# Altium integrated library Atmel AT40K.IntLib: 139 symbols (part 7 of 12)
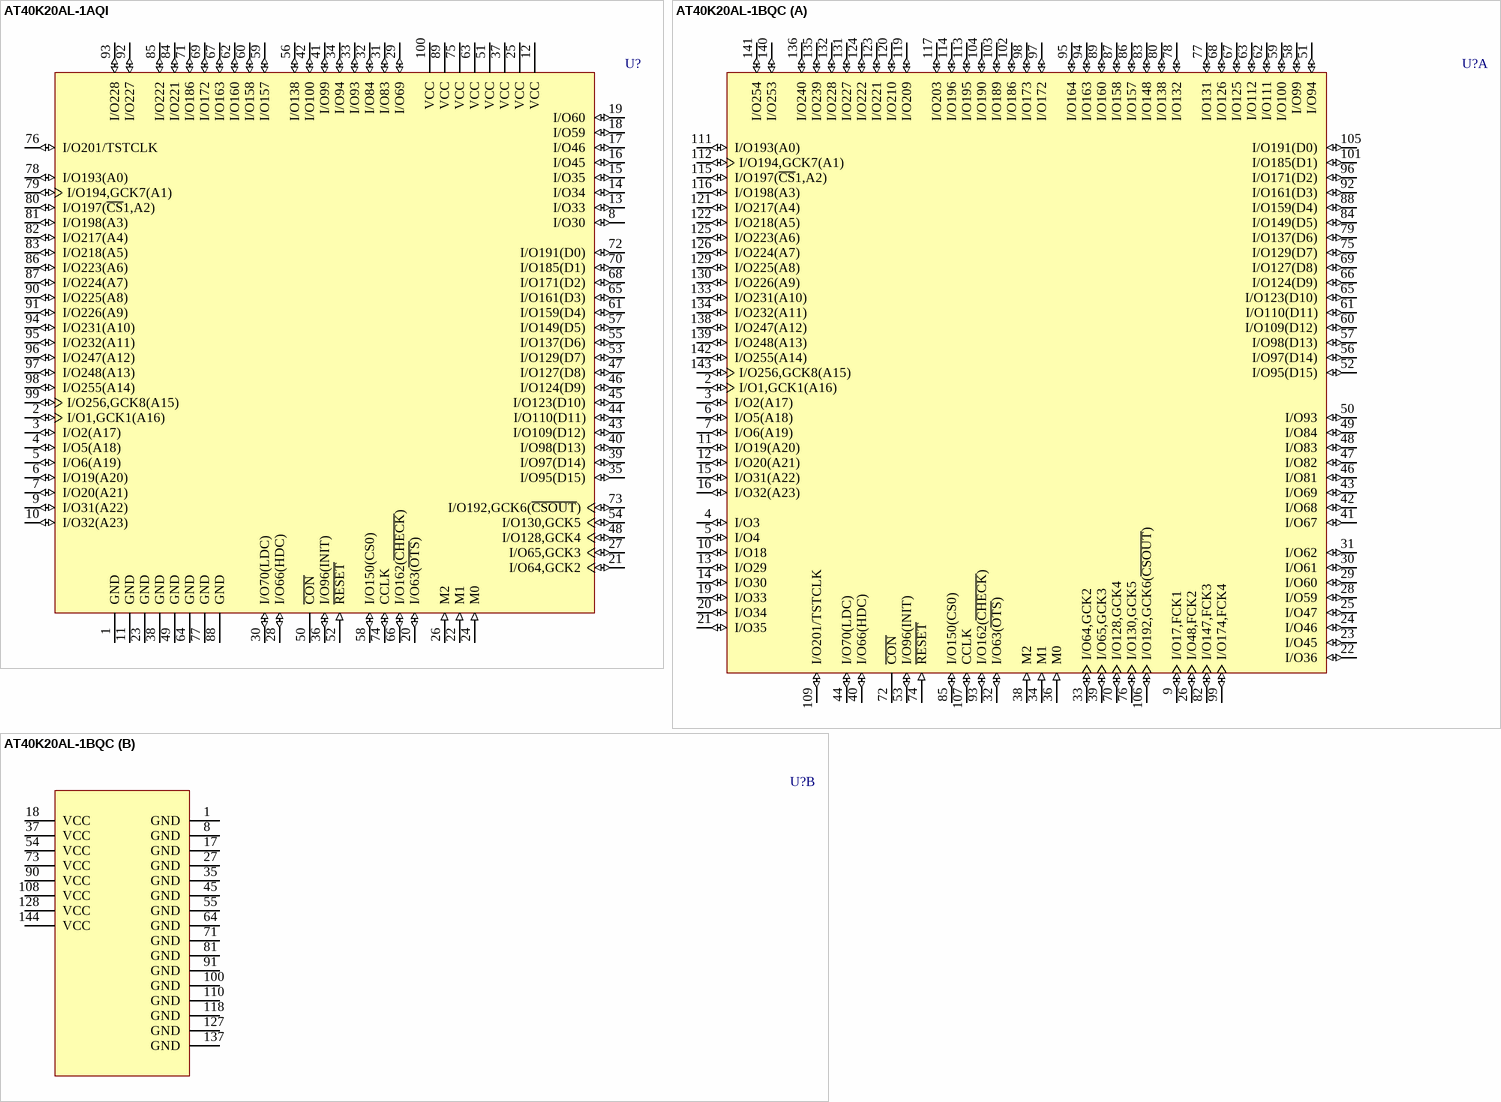
[diagram p113: symbols AT40K20AL-1AQI to AT40K20AL-1BQC]

## AT40K20AL-1BQC
designator U?
AT40K20AL 3.3V FPGA, 114 User I/Os, 144-Lead LQFP, Speed Grade 1, Commercial Grade; Published: 17-Dec-2003; LatestRevisionDate: 13-Apr-2006; LatestRevisionNote: IPC-7351 Footprint Added.; DatasheetVersion: Rev. 2818D-02/03; PackageVersion: rev.A, Nov-2001; PackageReference: 144L1; Publisher: Altium Limited; PackageDescription: 144-Pin Thin Quad Flat Pack 0.5 mm Pitch; Code_JEDEC: MS-026-BFB; ComponentLink1Description: Manufacturer Link; ComponentLink1URL: http://www.atmel.com/products/FPGA/; ComponentLink2Description: Datasheet; ComponentLink2URL: http://www.atmel.com/dyn/resources/prod_documents/DOC0896.PDF
footprint 144L1_N (Thin QFP, 144-Leads, Body 20x20mm, Pitch 0.5mm, IPC Medium Density)
footprint 144L1_L (Thin QFP, 144-Leads, Body 20x20mm, Pitch 0.5mm, IPC High Density)
footprint 144L1_M (Thin QFP, 144-Leads, Body 20x20mm, Pitch 0.5mm, IPC Low Density)
3D model AT40K20AL-144L1 (144-Pin Thin Quad Flat Pack 0.5 mm Pitch)
part A pins: 2 I/O1,GCK1(A16) (io), 3 I/O2(A17) (io), 4 I/O3 (io), 5 I/O4 (io), 6 I/O5(A18) (io), 7 I/O6(A19) (io), 9 I/O17,FCK1 (io), 10 I/O18 (io), 11 I/O19(A20) (io), 12 I/O20(A21) (io), 13 I/O29 (io), 14 I/O30 (io), 15 I/O31(A22) (io), 16 I/O32(A23) (io), 19 I/O33 (io), 20 I/O34 (io), 21 I/O35 (io), 22 I/O36 (io), 23 I/O45 (io), 24 I/O46 (io), 25 I/O47 (io), 26 I/O48,FCK2 (io), 28 I/O59 (io), 29 I/O60 (io), 30 I/O61 (io), 31 I/O62 (io), 32 I/O63(~{OTS}) (io), 33 I/O64,GCK2 (io), 34 M1 (in), 36 M0 (in), 38 M2 (in), 39 I/O65,GCK3 (io), 40 I/O66(HDC) (io), 41 I/O67 (io), 42 I/O68 (io), 43 I/O69 (io), 44 I/O70(LDC) (io), 46 I/O81 (io), 47 I/O82 (io), 48 I/O83 (io), 49 I/O84 (io), 50 I/O93 (io), 51 I/O94 (io), 52 I/O95(D15) (io), 53 I/O96(INIT) (io), 56 I/O97(D14) (io), 57 I/O98(D13) (io), 58 I/O99 (io), 59 I/O100 (io), 60 I/O109(D12) (io), 61 I/O110(D11) (io), 62 I/O111 (io), 63 I/O112 (io), 65 I/O123(D10) (io), 66 I/O124(D9) (io), 67 I/O125 (io), 68 I/O126 (io), 69 I/O127(D8) (io), 70 I/O128,GCK4 (io), 72 ~{CON} (oc), 74 ~{RESET} (in), 75 I/O129(D7) (io), 76 I/O130,GCK5 (io), 77 I/O131 (io), 78 I/O132 (io), 79 I/O137(D6) (io), 80 I/O138 (io), 82 I/O147,FCK3 (io), 83 I/O148 (io), 84 I/O149(D5) (io), 85 I/O150(CS0) (io), 86 I/O157 (io), 87 I/O158 (io), 88 I/O159(D4) (io), 89 I/O160 (io), 92 I/O161(D3) (io), 93 I/O162(~{CHECK}) (io), 94 I/O163 (io), 95 I/O164 (io), 96 I/O171(D2) (io), 97 I/O172 (io), 98 I/O173 (io), 99 I/O174,FCK4 (io), 101 I/O185(D1) (io), 102 I/O186 (io), 103 I/O189 (io), 104 I/O190 (io), 105 I/O191(D0) (io), 106 I/O192,GCK6(~{CSOUT}) (io), 107 CCLK (io), 109 I/O201/TSTCLK (io), 111 I/O193(A0) (io), 112 I/O194,GCK7(A1) (io), 113 I/O195 (io), 114 I/O196 (io), 115 I/O197(~{CS}1,A2) (io), 116 I/O198(A3) (io), 117 I/O203 (io), 119 I/O209 (io), 120 I/O210 (io), 121 I/O217(A4) (io), 122 I/O218(A5) (io), 123 I/O221 (io), 124 I/O222 (io), 125 I/O223(A6) (io), 126 I/O224(A7) (io), 129 I/O225(A8) (io), 130 I/O226(A9) (io), 131 I/O227 (io), 132 I/O228 (io), 133 I/O231(A10) (io), 134 I/O232(A11) (io), 135 I/O239 (io), 136 I/O240 (io), 138 I/O247(A12) (io), 139 I/O248(A13) (io), 140 I/O253 (io), 141 I/O254 (io), 142 I/O255(A14) (io), 143 I/O256,GCK8(A15) (io)
part B pins: 1 GND (power), 8 GND (power), 17 GND (power), 18 VCC (power), 27 GND (power), 35 GND (power), 37 VCC (power), 45 GND (power), 54 VCC (power), 55 GND (power), 64 GND (power), 71 GND (power), 73 VCC (power), 81 GND (power), 90 VCC (power), 91 GND (power), 100 GND (power), 108 VCC (power), 110 GND (power), 118 GND (power), 127 GND (power), 128 VCC (power), 137 GND (power), 144 VCC (power)

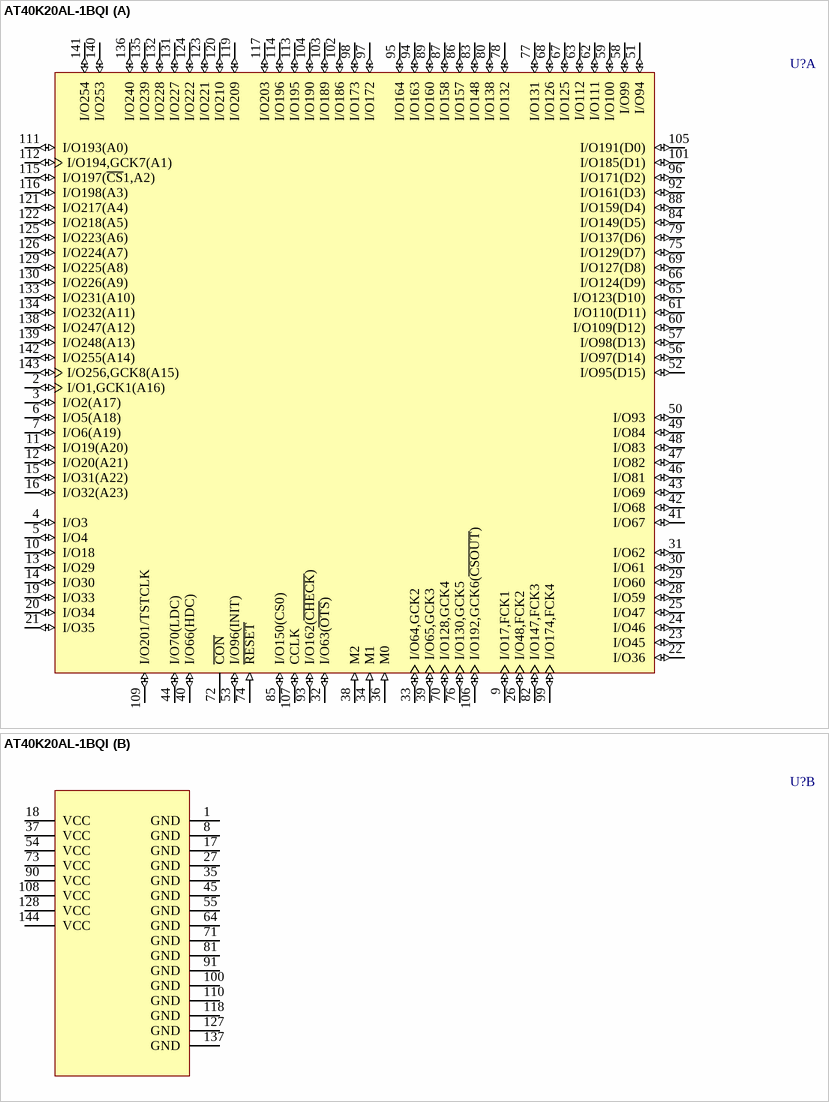
[diagram p51: symbol AT40K20AL-1BQI]

## AT40K20AL-1BQI
designator U?
AT40K20AL 3.3V FPGA, 114 User I/Os, 144-Lead LQFP, Speed Grade 1, Industrial Grade; Published: 17-Dec-2003; LatestRevisionDate: 13-Apr-2006; LatestRevisionNote: IPC-7351 Footprint Added.; DatasheetVersion: Rev. 2818D-02/03; PackageVersion: rev.A, Nov-2001; PackageReference: 144L1; Publisher: Altium Limited; PackageDescription: 144-Pin Thin Quad Flat Pack 0.5 mm Pitch; Code_JEDEC: MS-026-BFB; ComponentLink1Description: Manufacturer Link; ComponentLink1URL: http://www.atmel.com/products/FPGA/; ComponentLink2Description: Datasheet; ComponentLink2URL: http://www.atmel.com/dyn/resources/prod_documents/DOC0896.PDF
footprint 144L1_N (Thin QFP, 144-Leads, Body 20x20mm, Pitch 0.5mm, IPC Medium Density)
footprint 144L1_L (Thin QFP, 144-Leads, Body 20x20mm, Pitch 0.5mm, IPC High Density)
footprint 144L1_M (Thin QFP, 144-Leads, Body 20x20mm, Pitch 0.5mm, IPC Low Density)
3D model AT40K20AL-144L1 (144-Pin Thin Quad Flat Pack 0.5 mm Pitch)
part A pins: 2 I/O1,GCK1(A16) (io), 3 I/O2(A17) (io), 4 I/O3 (io), 5 I/O4 (io), 6 I/O5(A18) (io), 7 I/O6(A19) (io), 9 I/O17,FCK1 (io), 10 I/O18 (io), 11 I/O19(A20) (io), 12 I/O20(A21) (io), 13 I/O29 (io), 14 I/O30 (io), 15 I/O31(A22) (io), 16 I/O32(A23) (io), 19 I/O33 (io), 20 I/O34 (io), 21 I/O35 (io), 22 I/O36 (io), 23 I/O45 (io), 24 I/O46 (io), 25 I/O47 (io), 26 I/O48,FCK2 (io), 28 I/O59 (io), 29 I/O60 (io), 30 I/O61 (io), 31 I/O62 (io), 32 I/O63(~{OTS}) (io), 33 I/O64,GCK2 (io), 34 M1 (in), 36 M0 (in), 38 M2 (in), 39 I/O65,GCK3 (io), 40 I/O66(HDC) (io), 41 I/O67 (io), 42 I/O68 (io), 43 I/O69 (io), 44 I/O70(LDC) (io), 46 I/O81 (io), 47 I/O82 (io), 48 I/O83 (io), 49 I/O84 (io), 50 I/O93 (io), 51 I/O94 (io), 52 I/O95(D15) (io), 53 I/O96(INIT) (io), 56 I/O97(D14) (io), 57 I/O98(D13) (io), 58 I/O99 (io), 59 I/O100 (io), 60 I/O109(D12) (io), 61 I/O110(D11) (io), 62 I/O111 (io), 63 I/O112 (io), 65 I/O123(D10) (io), 66 I/O124(D9) (io), 67 I/O125 (io), 68 I/O126 (io), 69 I/O127(D8) (io), 70 I/O128,GCK4 (io), 72 ~{CON} (oc), 74 ~{RESET} (in), 75 I/O129(D7) (io), 76 I/O130,GCK5 (io), 77 I/O131 (io), 78 I/O132 (io), 79 I/O137(D6) (io), 80 I/O138 (io), 82 I/O147,FCK3 (io), 83 I/O148 (io), 84 I/O149(D5) (io), 85 I/O150(CS0) (io), 86 I/O157 (io), 87 I/O158 (io), 88 I/O159(D4) (io), 89 I/O160 (io), 92 I/O161(D3) (io), 93 I/O162(~{CHECK}) (io), 94 I/O163 (io), 95 I/O164 (io), 96 I/O171(D2) (io), 97 I/O172 (io), 98 I/O173 (io), 99 I/O174,FCK4 (io), 101 I/O185(D1) (io), 102 I/O186 (io), 103 I/O189 (io), 104 I/O190 (io), 105 I/O191(D0) (io), 106 I/O192,GCK6(~{CSOUT}) (io), 107 CCLK (io), 109 I/O201/TSTCLK (io), 111 I/O193(A0) (io), 112 I/O194,GCK7(A1) (io), 113 I/O195 (io), 114 I/O196 (io), 115 I/O197(~{CS}1,A2) (io), 116 I/O198(A3) (io), 117 I/O203 (io), 119 I/O209 (io), 120 I/O210 (io), 121 I/O217(A4) (io), 122 I/O218(A5) (io), 123 I/O221 (io), 124 I/O222 (io), 125 I/O223(A6) (io), 126 I/O224(A7) (io), 129 I/O225(A8) (io), 130 I/O226(A9) (io), 131 I/O227 (io), 132 I/O228 (io), 133 I/O231(A10) (io), 134 I/O232(A11) (io), 135 I/O239 (io), 136 I/O240 (io), 138 I/O247(A12) (io), 139 I/O248(A13) (io), 140 I/O253 (io), 141 I/O254 (io), 142 I/O255(A14) (io), 143 I/O256,GCK8(A15) (io)
part B pins: 1 GND (power), 8 GND (power), 17 GND (power), 18 VCC (power), 27 GND (power), 35 GND (power), 37 VCC (power), 45 GND (power), 54 VCC (power), 55 GND (power), 64 GND (power), 71 GND (power), 73 VCC (power), 81 GND (power), 90 VCC (power), 91 GND (power), 100 GND (power), 108 VCC (power), 110 GND (power), 118 GND (power), 127 GND (power), 128 VCC (power), 137 GND (power), 144 VCC (power)

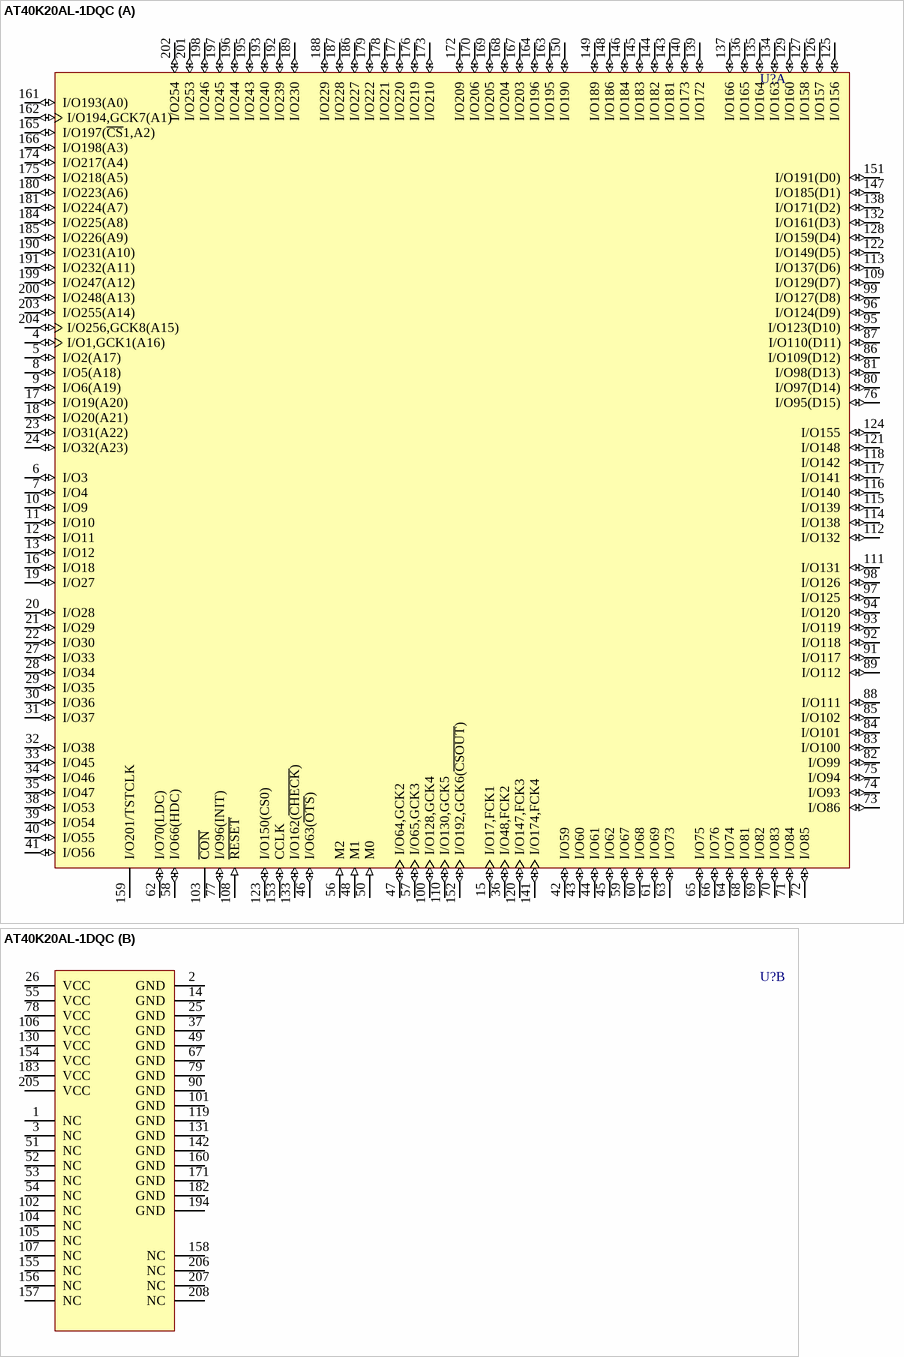
[diagram p52: symbol AT40K20AL-1DQC]

## AT40K20AL-1DQC
designator U?
AT40K20AL 3.3V FPGA, 161 User I/Os, 208-Lead PQFP, Speed Grade 1, Commercial Grade; Published: 17-Dec-2003; LatestRevisionDate: 13-Apr-2006; LatestRevisionNote: IPC-7351 Footprint Added.; DatasheetVersion: Rev. 2818D-02/03; PackageVersion: rev.A, Nov-2001; PackageReference: 208Q1; Publisher: Altium Limited; PackageDescription: 208-Pin Shrink Quad Flat Pack 0.5 mm Pitch; ComponentLink1Description: Manufacturer Link; ComponentLink1URL: http://www.atmel.com/products/FPGA/; ComponentLink2Description: Datasheet; ComponentLink2URL: http://www.atmel.com/dyn/resources/prod_documents/DOC0896.PDF
footprint 208Q1_N (Shrink QFP, 208-Leads, Body 28x28mm, Pitch 0.5mm, IPC Medium Density)
footprint 208Q1_L (Shrink QFP, 208-Leads, Body 28x28mm, Pitch 0.5mm, IPC High Density)
footprint 208Q1_M (Shrink QFP, 208-Leads, Body 28x28mm, Pitch 0.5mm, IPC Low Density)
3D model AT40K20AL-208Q1 (208-Pin Shrink Quad Flat Pack 0.5 mm Pitch)
part A pins: 4 I/O1,GCK1(A16) (io), 5 I/O2(A17) (io), 6 I/O3 (io), 7 I/O4 (io), 8 I/O5(A18) (io), 9 I/O6(A19) (io), 10 I/O9 (io), 11 I/O10 (io), 12 I/O11 (io), 13 I/O12 (io), 15 I/O17,FCK1 (io), 16 I/O18 (io), 17 I/O19(A20) (io), 18 I/O20(A21) (io), 19 I/O27 (io), 20 I/O28 (io), 21 I/O29 (io), 22 I/O30 (io), 23 I/O31(A22) (io), 24 I/O32(A23) (io), 27 I/O33 (io), 28 I/O34 (io), 29 I/O35 (io), 30 I/O36 (io), 31 I/O37 (io), 32 I/O38 (io), 33 I/O45 (io), 34 I/O46 (io), 35 I/O47 (io), 36 I/O48,FCK2 (io), 38 I/O53 (io), 39 I/O54 (io), 40 I/O55 (io), 41 I/O56 (io), 42 I/O59 (io), 43 I/O60 (io), 44 I/O61 (io), 45 I/O62 (io), 46 I/O63(~{OTS}) (io), 47 I/O64,GCK2 (io), 48 M1 (in), 50 M0 (in), 56 M2 (in), 57 I/O65,GCK3 (io), 58 I/O66(HDC) (io), 59 I/O67 (io), 60 I/O68 (io), 61 I/O69 (io), 62 I/O70(LDC) (io), 63 I/O73 (io), 64 I/O74 (io), 65 I/O75 (io), 66 I/O76 (io), 68 I/O81 (io), 69 I/O82 (io), 70 I/O83 (io), 71 I/O84 (io), 72 I/O85 (io), 73 I/O86 (io), 74 I/O93 (io), 75 I/O94 (io), 76 I/O95(D15) (io), 77 I/O96(INIT) (io), 80 I/O97(D14) (io), 81 I/O98(D13) (io), 82 I/O99 (io), 83 I/O100 (io), 84 I/O101 (io), 85 I/O102 (io), 86 I/O109(D12) (io), 87 I/O110(D11) (io), 88 I/O111 (io), 89 I/O112 (io), 91 I/O117 (io), 92 I/O118 (io), 93 I/O119 (io), 94 I/O120 (io), 95 I/O123(D10) (io), 96 I/O124(D9) (io), 97 I/O125 (io), 98 I/O126 (io), 99 I/O127(D8) (io), 100 I/O128,GCK4 (io), 103 ~{CON} (oc), 108 ~{RESET} (in), 109 I/O129(D7) (io), 110 I/O130,GCK5 (io), 111 I/O131 (io), 112 I/O132 (io), 113 I/O137(D6) (io), 114 I/O138 (io), 115 I/O139 (io), 116 I/O140 (io), 117 I/O141 (io), 118 I/O142 (io), 120 I/O147,FCK3 (io), 121 I/O148 (io), 122 I/O149(D5) (io), 123 I/O150(CS0) (io), 124 I/O155 (io), 125 I/O156 (io), 126 I/O157 (io), 127 I/O158 (io), 128 I/O159(D4) (io), 129 I/O160 (io), 132 I/O161(D3) (io), 133 I/O162(~{CHECK}) (io), 134 I/O163 (io), 135 I/O164 (io), 136 I/O165 (io), 137 I/O166 (io), 138 I/O171(D2) (io), 139 I/O172 (io), 140 I/O173 (io), 141 I/O174,FCK4 (io), 143 I/O181 (io), 144 I/O182 (io), 145 I/O183 (io), 146 I/O184 (io), 147 I/O185(D1) (io), 148 I/O186 (io), 149 I/O189 (io), 150 I/O190 (io), 151 I/O191(D0) (io), 152 I/O192,GCK6(~{CSOUT}) (io), 153 CCLK (io), 159 I/O201/TSTCLK, 161 I/O193(A0) (io), 162 I/O194,GCK7(A1) (io), 163 I/O195 (io), 164 I/O196 (io), 165 I/O197(~{CS}1,A2) (io), 166 I/O198(A3) (io), 167 I/O203 (io), 168 I/O204 (io), 169 I/O205 (io), 170 I/O206 (io), 172 I/O209 (io), 173 I/O210 (io), 174 I/O217(A4) (io), 175 I/O218(A5) (io), 176 I/O219 (io), 177 I/O220 (io), 178 I/O221 (io), 179 I/O222 (io), 180 I/O223(A6) (io), 181 I/O224(A7) (io), 184 I/O225(A8) (io), 185 I/O226(A9) (io), 186 I/O227 (io), 187 I/O228 (io), 188 I/O229 (io), 189 I/O230 (io), 190 I/O231(A10) (io), 191 I/O232(A11) (io), 192 I/O239 (io), 193 I/O240 (io), 195 I/O243 (io), 196 I/O244 (io), 197 I/O245 (io), 198 I/O246 (io), 199 I/O247(A12) (io), 200 I/O248(A13) (io), 201 I/O253 (io), 202 I/O254 (io), 203 I/O255(A14) (io), 204 I/O256,GCK8(A15) (io)
part B pins: 1 NC, 2 GND (power), 3 NC, 14 GND (power), 25 GND (power), 26 VCC (power), 37 GND (power), 49 GND (power), 51 NC, 52 NC, 53 NC, 54 NC, 55 VCC (power), 67 GND (power), 78 VCC (power), 79 GND (power), 90 GND (power), 101 GND (power), 102 NC, 104 NC, 105 NC, 106 VCC (power), 107 NC, 119 GND (power), 130 VCC (power), 131 GND (power), 142 GND (power), 154 VCC (power), 155 NC, 156 NC, 157 NC, 158 NC, 160 GND (power), 171 GND (power), 182 GND (power), 183 VCC (power), 194 GND (power), 205 VCC (power), 206 NC, 207 NC, 208 NC

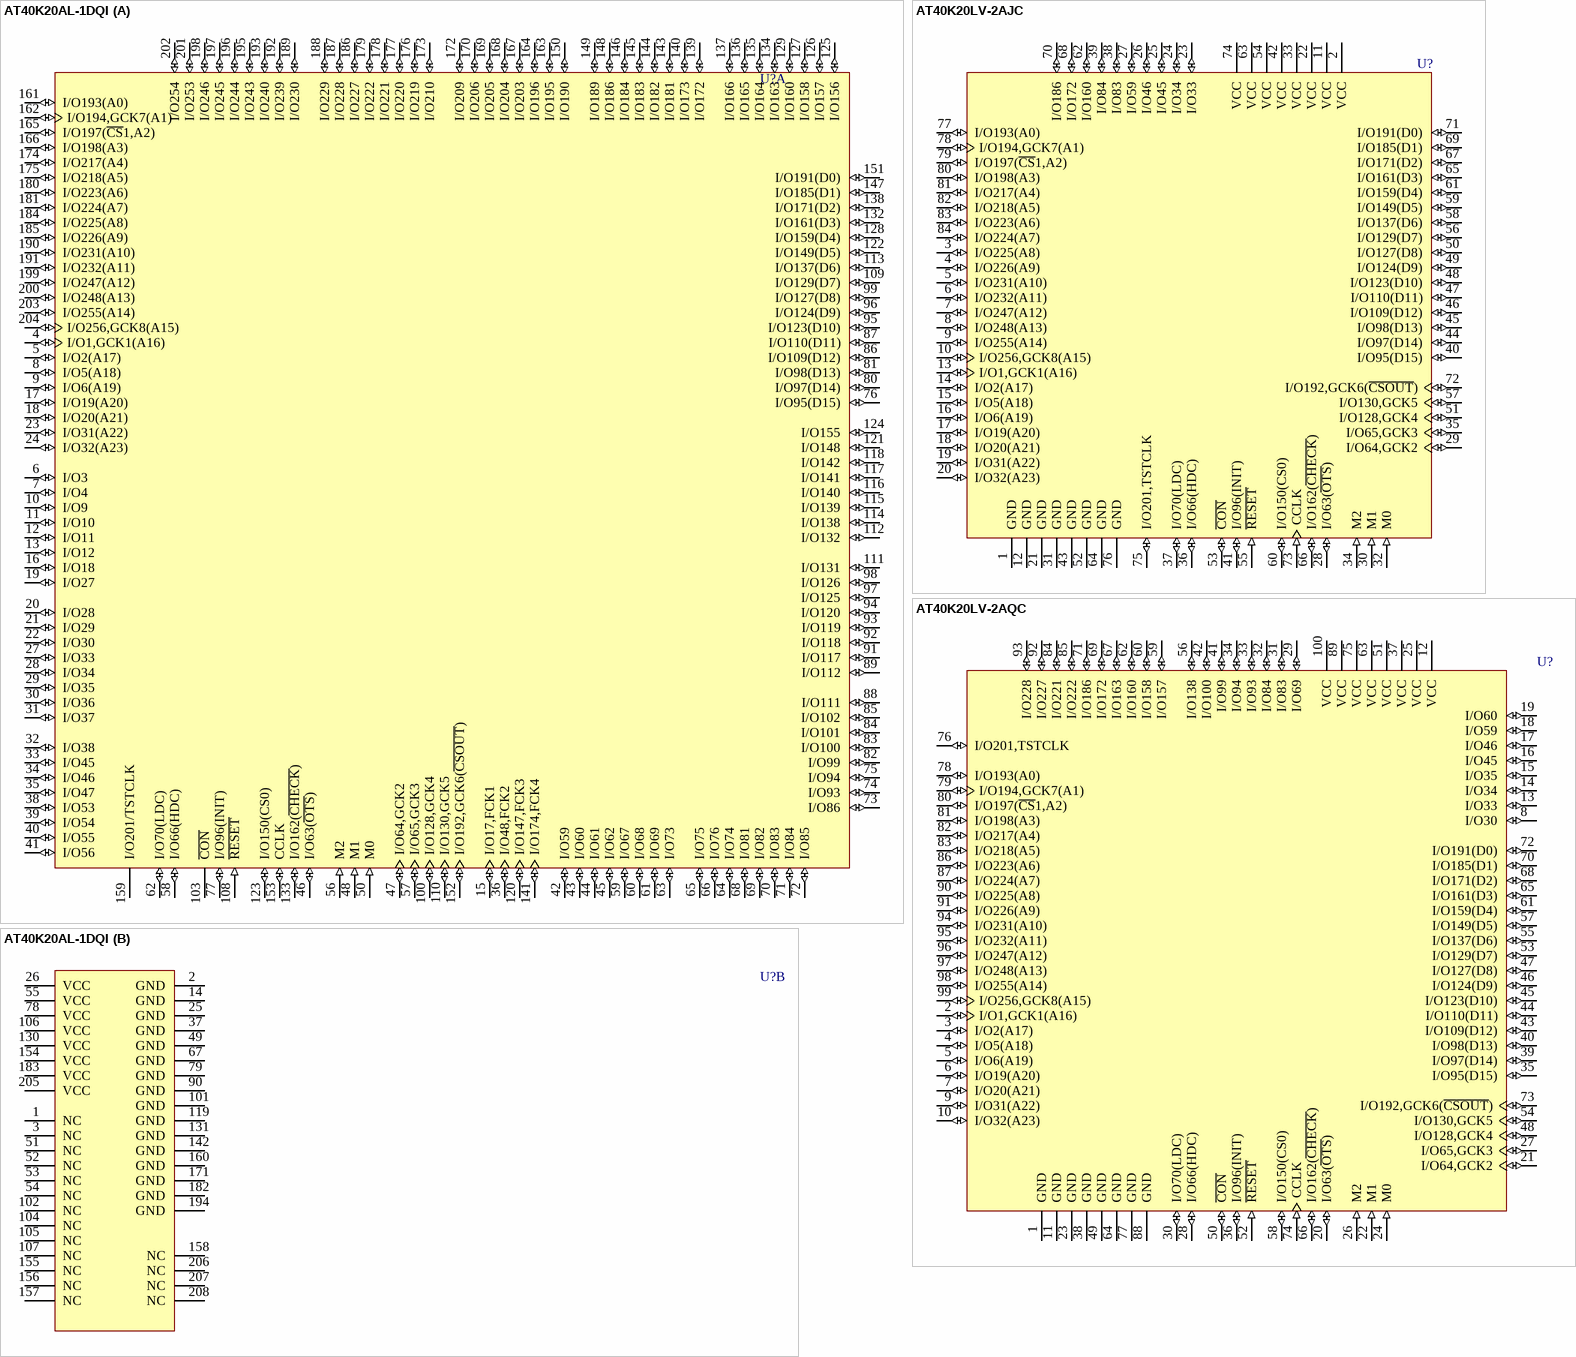
[diagram p53: symbols AT40K20AL-1DQI to AT40K20LV-2AQC]

## AT40K20AL-1DQI
designator U?
AT40K20AL 3.3V FPGA, 161 User I/Os, 208-Lead PQFP, Speed Grade 1, Industrial Grade; Published: 17-Dec-2003; LatestRevisionDate: 13-Apr-2006; LatestRevisionNote: IPC-7351 Footprint Added.; DatasheetVersion: Rev. 2818D-02/03; PackageVersion: rev.A, Nov-2001; PackageReference: 208Q1; Publisher: Altium Limited; PackageDescription: 208-Pin Shrink Quad Flat Pack 0.5 mm Pitch; ComponentLink1Description: Manufacturer Link; ComponentLink1URL: http://www.atmel.com/products/FPGA/; ComponentLink2Description: Datasheet; ComponentLink2URL: http://www.atmel.com/dyn/resources/prod_documents/DOC0896.PDF
footprint 208Q1_N (Shrink QFP, 208-Leads, Body 28x28mm, Pitch 0.5mm, IPC Medium Density)
footprint 208Q1_L (Shrink QFP, 208-Leads, Body 28x28mm, Pitch 0.5mm, IPC High Density)
footprint 208Q1_M (Shrink QFP, 208-Leads, Body 28x28mm, Pitch 0.5mm, IPC Low Density)
3D model AT40K20AL-208Q1 (208-Pin Shrink Quad Flat Pack 0.5 mm Pitch)
part A pins: 4 I/O1,GCK1(A16) (io), 5 I/O2(A17) (io), 6 I/O3 (io), 7 I/O4 (io), 8 I/O5(A18) (io), 9 I/O6(A19) (io), 10 I/O9 (io), 11 I/O10 (io), 12 I/O11 (io), 13 I/O12 (io), 15 I/O17,FCK1 (io), 16 I/O18 (io), 17 I/O19(A20) (io), 18 I/O20(A21) (io), 19 I/O27 (io), 20 I/O28 (io), 21 I/O29 (io), 22 I/O30 (io), 23 I/O31(A22) (io), 24 I/O32(A23) (io), 27 I/O33 (io), 28 I/O34 (io), 29 I/O35 (io), 30 I/O36 (io), 31 I/O37 (io), 32 I/O38 (io), 33 I/O45 (io), 34 I/O46 (io), 35 I/O47 (io), 36 I/O48,FCK2 (io), 38 I/O53 (io), 39 I/O54 (io), 40 I/O55 (io), 41 I/O56 (io), 42 I/O59 (io), 43 I/O60 (io), 44 I/O61 (io), 45 I/O62 (io), 46 I/O63(~{OTS}) (io), 47 I/O64,GCK2 (io), 48 M1 (in), 50 M0 (in), 56 M2 (in), 57 I/O65,GCK3 (io), 58 I/O66(HDC) (io), 59 I/O67 (io), 60 I/O68 (io), 61 I/O69 (io), 62 I/O70(LDC) (io), 63 I/O73 (io), 64 I/O74 (io), 65 I/O75 (io), 66 I/O76 (io), 68 I/O81 (io), 69 I/O82 (io), 70 I/O83 (io), 71 I/O84 (io), 72 I/O85 (io), 73 I/O86 (io), 74 I/O93 (io), 75 I/O94 (io), 76 I/O95(D15) (io), 77 I/O96(INIT) (io), 80 I/O97(D14) (io), 81 I/O98(D13) (io), 82 I/O99 (io), 83 I/O100 (io), 84 I/O101 (io), 85 I/O102 (io), 86 I/O109(D12) (io), 87 I/O110(D11) (io), 88 I/O111 (io), 89 I/O112 (io), 91 I/O117 (io), 92 I/O118 (io), 93 I/O119 (io), 94 I/O120 (io), 95 I/O123(D10) (io), 96 I/O124(D9) (io), 97 I/O125 (io), 98 I/O126 (io), 99 I/O127(D8) (io), 100 I/O128,GCK4 (io), 103 ~{CON} (oc), 108 ~{RESET} (in), 109 I/O129(D7) (io), 110 I/O130,GCK5 (io), 111 I/O131 (io), 112 I/O132 (io), 113 I/O137(D6) (io), 114 I/O138 (io), 115 I/O139 (io), 116 I/O140 (io), 117 I/O141 (io), 118 I/O142 (io), 120 I/O147,FCK3 (io), 121 I/O148 (io), 122 I/O149(D5) (io), 123 I/O150(CS0) (io), 124 I/O155 (io), 125 I/O156 (io), 126 I/O157 (io), 127 I/O158 (io), 128 I/O159(D4) (io), 129 I/O160 (io), 132 I/O161(D3) (io), 133 I/O162(~{CHECK}) (io), 134 I/O163 (io), 135 I/O164 (io), 136 I/O165 (io), 137 I/O166 (io), 138 I/O171(D2) (io), 139 I/O172 (io), 140 I/O173 (io), 141 I/O174,FCK4 (io), 143 I/O181 (io), 144 I/O182 (io), 145 I/O183 (io), 146 I/O184 (io), 147 I/O185(D1) (io), 148 I/O186 (io), 149 I/O189 (io), 150 I/O190 (io), 151 I/O191(D0) (io), 152 I/O192,GCK6(~{CSOUT}) (io), 153 CCLK (io), 159 I/O201/TSTCLK, 161 I/O193(A0) (io), 162 I/O194,GCK7(A1) (io), 163 I/O195 (io), 164 I/O196 (io), 165 I/O197(~{CS}1,A2) (io), 166 I/O198(A3) (io), 167 I/O203 (io), 168 I/O204 (io), 169 I/O205 (io), 170 I/O206 (io), 172 I/O209 (io), 173 I/O210 (io), 174 I/O217(A4) (io), 175 I/O218(A5) (io), 176 I/O219 (io), 177 I/O220 (io), 178 I/O221 (io), 179 I/O222 (io), 180 I/O223(A6) (io), 181 I/O224(A7) (io), 184 I/O225(A8) (io), 185 I/O226(A9) (io), 186 I/O227 (io), 187 I/O228 (io), 188 I/O229 (io), 189 I/O230 (io), 190 I/O231(A10) (io), 191 I/O232(A11) (io), 192 I/O239 (io), 193 I/O240 (io), 195 I/O243 (io), 196 I/O244 (io), 197 I/O245 (io), 198 I/O246 (io), 199 I/O247(A12) (io), 200 I/O248(A13) (io), 201 I/O253 (io), 202 I/O254 (io), 203 I/O255(A14) (io), 204 I/O256,GCK8(A15) (io)
part B pins: 1 NC, 2 GND (power), 3 NC, 14 GND (power), 25 GND (power), 26 VCC (power), 37 GND (power), 49 GND (power), 51 NC, 52 NC, 53 NC, 54 NC, 55 VCC (power), 67 GND (power), 78 VCC (power), 79 GND (power), 90 GND (power), 101 GND (power), 102 NC, 104 NC, 105 NC, 106 VCC (power), 107 NC, 119 GND (power), 130 VCC (power), 131 GND (power), 142 GND (power), 154 VCC (power), 155 NC, 156 NC, 157 NC, 158 NC, 160 GND (power), 171 GND (power), 182 GND (power), 183 VCC (power), 194 GND (power), 205 VCC (power), 206 NC, 207 NC, 208 NC

## AT40K20LV-2AJC
designator U?
AT40K20LV 3.3V FPGA, 82 User I/Os, 84-Lead PLCC, Speed Grade 2, Commercial Grade; Published: 15-Apr-2002; LatestRevisionDate: 13-Apr-2006; LatestRevisionNote: IPC-7351 Footprint Added.; DatasheetVersion: Rev. 0896C-04/02; PackageVersion: rev.B, Oct-2001; PackageReference: 84J; Publisher: Altium Limited; PackageDescription: 84J, 84-lead, Plastic J-leaded Chip Carrier (PLCC); Code_JEDEC: MS-018-AF; Code_IPC: PLCC-84; ComponentLink1Description: Manufacturer Link; ComponentLink1URL: http://www.atmel.com/products/FPGA/; ComponentLink2Description: Datasheet; ComponentLink2URL: http://www.atmel.com/dyn/resources/prod_documents/DOC0896.PDF
footprint 84J_N (Leaded Chip Carrier, 84-Leads, Body 29.3x29.3mm, Pitch 1.27mm, IPC Medium Density)
footprint 84J_L (Leaded Chip Carrier, 84-Leads, Body 29.3x29.3mm, Pitch 1.27mm, IPC High Density)
footprint 84J_M (Leaded Chip Carrier, 84-Leads, Body 29.3x29.3mm, Pitch 1.27mm, IPC Low Density)
3D model AT40K20LV-84J (84J, 84-lead, Plastic J-leaded Chip Carrier (PLCC))
pins: 1 GND (power), 2 VCC (power), 3 I/O225(A8) (io), 4 I/O226(A9) (io), 5 I/O231(A10) (io), 6 I/O232(A11) (io), 7 I/O247(A12) (io), 8 I/O248(A13) (io), 9 I/O255(A14) (io), 10 I/O256,GCK8(A15) (io), 11 VCC (power), 12 GND (power), 13 I/O1,GCK1(A16) (io), 14 I/O2(A17) (io), 15 I/O5(A18) (io), 16 I/O6(A19) (io), 17 I/O19(A20) (io), 18 I/O20(A21) (io), 19 I/O31(A22) (io), 20 I/O32(A23) (io), 21 GND (power), 22 VCC (power), 23 I/O33 (io), 24 I/O34 (io), 25 I/O45 (io), 26 I/O46 (io), 27 I/O59 (io), 28 I/O63(~{OTS}) (io), 29 I/O64,GCK2 (io), 30 M1 (in), 31 GND (power), 32 M0 (in), 33 VCC (power), 34 M2 (in), 35 I/O65,GCK3 (io), 36 I/O66(HDC) (io), 37 I/O70(LDC) (io), 38 I/O83 (io), 39 I/O84 (io), 40 I/O95(D15) (io), 41 I/O96(INIT) (io), 42 VCC (power), 43 GND (power), 44 I/O97(D14) (io), 45 I/O98(D13) (io), 46 I/O109(D12) (io), 47 I/O110(D11) (io), 48 I/O123(D10) (io), 49 I/O124(D9) (io), 50 I/O127(D8) (io), 51 I/O128,GCK4 (io), 52 GND (power), 53 ~{CON} (io), 54 VCC (power), 55 ~{RESET} (in), 56 I/O129(D7) (io), 57 I/O130,GCK5 (io), 58 I/O137(D6) (io), 59 I/O149(D5) (io), 60 I/O150(CS0) (io), 61 I/O159(D4) (io), 62 I/O160 (io), 63 VCC (power), 64 GND (power), 65 I/O161(D3) (io), 66 I/O162(~{CHECK}) (io), 67 I/O171(D2) (io), 68 I/O172 (io), 69 I/O185(D1) (io), 70 I/O186 (io), 71 I/O191(D0) (io), 72 I/O192,GCK6(~{CSOUT}) (io), 73 CCLK (in), 74 VCC (power), 75 I/O201,TSTCLK (io), 76 GND (power), 77 I/O193(A0) (io), 78 I/O194,GCK7(A1) (io), 79 I/O197(~{CS}1,A2) (io), 80 I/O198(A3) (io), 81 I/O217(A4) (io), 82 I/O218(A5) (io), 83 I/O223(A6) (io), 84 I/O224(A7) (io)

## AT40K20LV-2AQC
designator U?
AT40K20LV 3.3V FPGA, 77 User I/Os, 100-Lead PQFP, Speed Grade 2, Commercial Grade; Published: 15-Apr-2002; LatestRevisionDate: 13-Apr-2006; LatestRevisionNote: IPC-7351 Footprint Added.; DatasheetVersion: Rev. 0896C-04/02; PackageVersion: rev.A, Nov-2001; PackageReference: 100T1; Publisher: Altium Limited; PackageDescription: 100-Pin Thin Quad Flat Pack 0.5 mm Pitch; Code_JEDEC: MS-026-AED; ComponentLink1Description: Manufacturer Link; ComponentLink1URL: http://www.atmel.com/products/FPGA/; ComponentLink2Description: Datasheet; ComponentLink2URL: http://www.atmel.com/dyn/resources/prod_documents/DOC0896.PDF
footprint 100T1_N (Thin QFP, 100-Leads, Body 14x14mm, Pitch 0.5mm, IPC Medium Density)
footprint 100T1_L (Thin QFP, 100-Leads, Body 14x14mm, Pitch 0.5mm, IPC High Density)
footprint 100T1_M (Thin QFP, 100-Leads, Body 14x14mm, Pitch 0.5mm, IPC Low Density)
3D model AT40K20LV-100T1 (100-Pin Thin Quad Flat Pack 0.5 mm Pitch)
pins: 1 GND (power), 2 I/O1,GCK1(A16) (io), 3 I/O2(A17) (io), 4 I/O5(A18) (io), 5 I/O6(A19) (io), 6 I/O19(A20) (io), 7 I/O20(A21) (io), 8 I/O30 (io), 9 I/O31(A22) (io), 10 I/O32(A23) (io), 11 GND (power), 12 VCC (power), 13 I/O33 (io), 14 I/O34 (io), 15 I/O35 (io), 16 I/O45 (io), 17 I/O46 (io), 18 I/O59 (io), 19 I/O60 (io), 20 I/O63(~{OTS}) (io), 21 I/O64,GCK2 (io), 22 M1 (in), 23 GND (power), 24 M0 (in), 25 VCC (power), 26 M2 (in), 27 I/O65,GCK3 (io), 28 I/O66(HDC) (io), 29 I/O69 (io), 30 I/O70(LDC) (io), 31 I/O83 (io), 32 I/O84 (io), 33 I/O93 (io), 34 I/O94 (io), 35 I/O95(D15) (io), 36 I/O96(INIT) (io), 37 VCC (power), 38 GND (power), 39 I/O97(D14) (io), 40 I/O98(D13) (io), 41 I/O99 (io), 42 I/O100 (io), 43 I/O109(D12) (io), 44 I/O110(D11) (io), 45 I/O123(D10) (io), 46 I/O124(D9) (io), 47 I/O127(D8) (io), 48 I/O128,GCK4 (io), 49 GND (power), 50 ~{CON} (io), 51 VCC (power), 52 ~{RESET} (in), 53 I/O129(D7) (io), 54 I/O130,GCK5 (io), 55 I/O137(D6) (io), 56 I/O138 (io), 57 I/O149(D5) (io), 58 I/O150(CS0) (io), 59 I/O157 (io), 60 I/O158 (io), 61 I/O159(D4) (io), 62 I/O160 (io), 63 VCC (power), 64 GND (power), 65 I/O161(D3) (io), 66 I/O162(~{CHECK}) (io), 67 I/O163 (io), 68 I/O171(D2) (io), 69 I/O172 (io), 70 I/O185(D1) (io), 71 I/O186 (io), 72 I/O191(D0) (io), 73 I/O192,GCK6(~{CSOUT}) (io), 74 CCLK (in), 75 VCC (power), 76 I/O201,TSTCLK (io), 77 GND (power), 78 I/O193(A0) (io), 79 I/O194,GCK7(A1) (io), 80 I/O197(~{CS}1,A2) (io), 81 I/O198(A3) (io), 82 I/O217(A4) (io), 83 I/O218(A5) (io), 84 I/O221 (io), 85 I/O222 (io), 86 I/O223(A6) (io), 87 I/O224(A7) (io), 88 GND (power), 89 VCC (power), 90 I/O225(A8) (io), 91 I/O226(A9) (io), 92 I/O227 (io), 93 I/O228 (io), 94 I/O231(A10) (io), 95 I/O232(A11) (io), 96 I/O247(A12) (io), 97 I/O248(A13) (io), 98 I/O255(A14) (io), 99 I/O256,GCK8(A15) (io), 100 VCC (power)

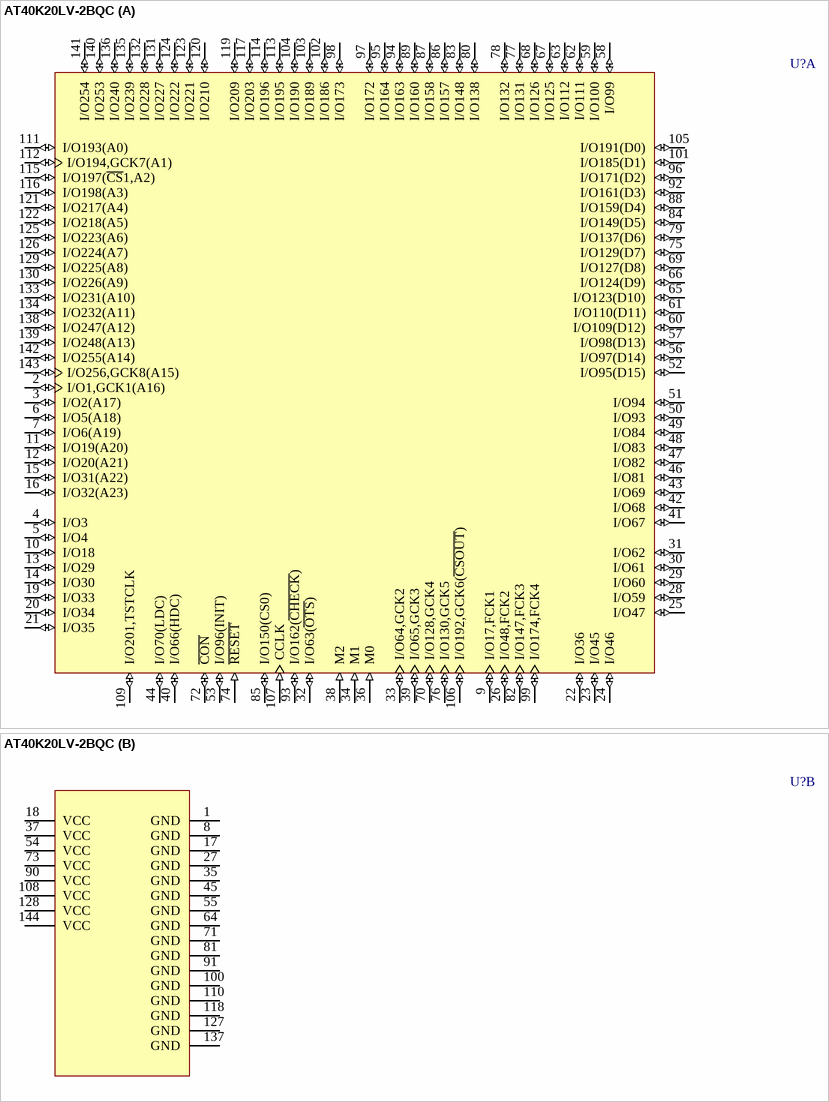
[diagram p54: symbol AT40K20LV-2BQC]

## AT40K20LV-2BQC
designator U?
AT40K20LV 3.3V FPGA, 114 User I/Os, 144-Lead LQFP, Speed Grade 2, Commercial Grade; Published: 15-Apr-2002; LatestRevisionDate: 13-Apr-2006; LatestRevisionNote: IPC-7351 Footprint Added.; DatasheetVersion: Rev. 0896C-04/02; PackageVersion: rev.A, Nov-2001; PackageReference: 144L1; Publisher: Altium Limited; PackageDescription: 144-Pin Thin Quad Flat Pack 0.5 mm Pitch; Code_JEDEC: MS-026-BFB; ComponentLink1Description: Manufacturer Link; ComponentLink1URL: http://www.atmel.com/products/FPGA/; ComponentLink2Description: Datasheet; ComponentLink2URL: http://www.atmel.com/dyn/resources/prod_documents/DOC0896.PDF
footprint 144L1_N (Thin QFP, 144-Leads, Body 20x20mm, Pitch 0.5mm, IPC Medium Density)
footprint 144L1_L (Thin QFP, 144-Leads, Body 20x20mm, Pitch 0.5mm, IPC High Density)
footprint 144L1_M (Thin QFP, 144-Leads, Body 20x20mm, Pitch 0.5mm, IPC Low Density)
3D model AT40K20LV-144L1 (144-Pin Thin Quad Flat Pack 0.5 mm Pitch)
part A pins: 2 I/O1,GCK1(A16) (io), 3 I/O2(A17) (io), 4 I/O3 (io), 5 I/O4 (io), 6 I/O5(A18) (io), 7 I/O6(A19) (io), 9 I/O17,FCK1 (io), 10 I/O18 (io), 11 I/O19(A20) (io), 12 I/O20(A21) (io), 13 I/O29 (io), 14 I/O30 (io), 15 I/O31(A22) (io), 16 I/O32(A23) (io), 19 I/O33 (io), 20 I/O34 (io), 21 I/O35 (io), 22 I/O36 (io), 23 I/O45 (io), 24 I/O46 (io), 25 I/O47 (io), 26 I/O48,FCK2 (io), 28 I/O59 (io), 29 I/O60 (io), 30 I/O61 (io), 31 I/O62 (io), 32 I/O63(~{OTS}) (io), 33 I/O64,GCK2 (io), 34 M1 (in), 36 M0 (in), 38 M2 (in), 39 I/O65,GCK3 (io), 40 I/O66(HDC) (io), 41 I/O67 (io), 42 I/O68 (io), 43 I/O69 (io), 44 I/O70(LDC) (io), 46 I/O81 (io), 47 I/O82 (io), 48 I/O83 (io), 49 I/O84 (io), 50 I/O93 (io), 51 I/O94 (io), 52 I/O95(D15) (io), 53 I/O96(INIT) (io), 56 I/O97(D14) (io), 57 I/O98(D13) (io), 58 I/O99 (io), 59 I/O100 (io), 60 I/O109(D12) (io), 61 I/O110(D11) (io), 62 I/O111 (io), 63 I/O112 (io), 65 I/O123(D10) (io), 66 I/O124(D9) (io), 67 I/O125 (io), 68 I/O126 (io), 69 I/O127(D8) (io), 70 I/O128,GCK4 (io), 72 ~{CON} (io), 74 ~{RESET} (in), 75 I/O129(D7) (io), 76 I/O130,GCK5 (io), 77 I/O131 (io), 78 I/O132 (io), 79 I/O137(D6) (io), 80 I/O138 (io), 82 I/O147,FCK3 (io), 83 I/O148 (io), 84 I/O149(D5) (io), 85 I/O150(CS0) (io), 86 I/O157 (io), 87 I/O158 (io), 88 I/O159(D4) (io), 89 I/O160 (io), 92 I/O161(D3) (io), 93 I/O162(~{CHECK}) (io), 94 I/O163 (io), 95 I/O164 (io), 96 I/O171(D2) (io), 97 I/O172 (io), 98 I/O173 (io), 99 I/O174,FCK4 (io), 101 I/O185(D1) (io), 102 I/O186 (io), 103 I/O189 (io), 104 I/O190 (io), 105 I/O191(D0) (io), 106 I/O192,GCK6(~{CSOUT}) (io), 107 CCLK (in), 109 I/O201,TSTCLK (io), 111 I/O193(A0) (io), 112 I/O194,GCK7(A1) (io), 113 I/O195 (io), 114 I/O196 (io), 115 I/O197(~{CS}1,A2) (io), 116 I/O198(A3) (io), 117 I/O203 (io), 119 I/O209 (io), 120 I/O210 (io), 121 I/O217(A4) (io), 122 I/O218(A5) (io), 123 I/O221 (io), 124 I/O222 (io), 125 I/O223(A6) (io), 126 I/O224(A7) (io), 129 I/O225(A8) (io), 130 I/O226(A9) (io), 131 I/O227 (io), 132 I/O228 (io), 133 I/O231(A10) (io), 134 I/O232(A11) (io), 135 I/O239 (io), 136 I/O240 (io), 138 I/O247(A12) (io), 139 I/O248(A13) (io), 140 I/O253 (io), 141 I/O254 (io), 142 I/O255(A14) (io), 143 I/O256,GCK8(A15) (io)
part B pins: 1 GND (power), 8 GND (power), 17 GND (power), 18 VCC (power), 27 GND (power), 35 GND (power), 37 VCC (power), 45 GND (power), 54 VCC (power), 55 GND (power), 64 GND (power), 71 GND (power), 73 VCC (power), 81 GND (power), 90 VCC (power), 91 GND (power), 100 GND (power), 108 VCC (power), 110 GND (power), 118 GND (power), 127 GND (power), 128 VCC (power), 137 GND (power), 144 VCC (power)

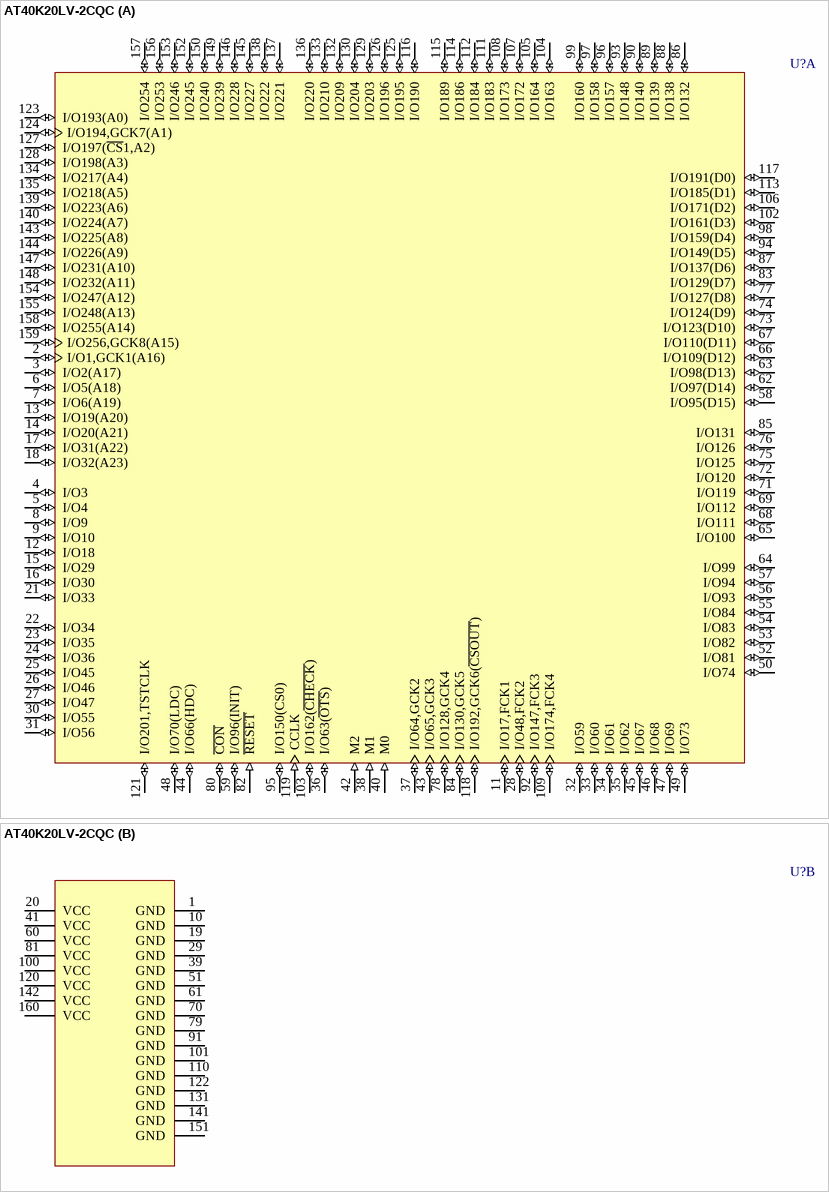
[diagram p55: symbol AT40K20LV-2CQC]

## AT40K20LV-2CQC
designator U?
AT40K20LV 3.3V FPGA, 130 User I/Os, 160-Lead PQFP, Speed Grade 2, Commercial Grade; Published: 15-Apr-2002; LatestRevisionDate: 13-Apr-2006; LatestRevisionNote: IPC-7351 Footprint Added.; DatasheetVersion: Rev. 0896C-04/02; PackageVersion: rev.A, Mar-2002; PackageReference: 160Q1; Publisher: Altium Limited; PackageDescription: 160-Pin Quad Flat Pack 0.65 mm Pitch; Code_JEDEC: MS-022-DD-1; Code_IPC: QFP65P3120X3120-160; ComponentLink1Description: Manufacturer Link; ComponentLink1URL: http://www.atmel.com/products/FPGA/; ComponentLink2Description: Datasheet; ComponentLink2URL: http://www.atmel.com/dyn/resources/prod_documents/DOC0896.PDF
footprint 160Q1_N (QFP, 160-Leads, Body 28 x 28mm, Pitch 0.65mm, IPC Medium Density)
footprint 160Q1_L (QFP, 160-Leads, Body 28 x 28mm, Pitch 0.65mm, IPC High Density)
footprint 160Q1_M (QFP, 160-Leads, Body 28 x 28mm, Pitch 0.65mm, IPC Low Density)
3D model AT40K20LV-160Q1 (160-Pin Quad Flat Pack 0.65 mm Pitch)
part A pins: 2 I/O1,GCK1(A16) (io), 3 I/O2(A17) (io), 4 I/O3 (io), 5 I/O4 (io), 6 I/O5(A18) (io), 7 I/O6(A19) (io), 8 I/O9 (io), 9 I/O10 (io), 11 I/O17,FCK1 (io), 12 I/O18 (io), 13 I/O19(A20) (io), 14 I/O20(A21) (io), 15 I/O29 (io), 16 I/O30 (io), 17 I/O31(A22) (io), 18 I/O32(A23) (io), 21 I/O33 (io), 22 I/O34 (io), 23 I/O35 (io), 24 I/O36 (io), 25 I/O45 (io), 26 I/O46 (io), 27 I/O47 (io), 28 I/O48,FCK2 (io), 30 I/O55 (io), 31 I/O56 (io), 32 I/O59 (io), 33 I/O60 (io), 34 I/O61 (io), 35 I/O62 (io), 36 I/O63(~{OTS}) (io), 37 I/O64,GCK2 (io), 38 M1 (in), 40 M0 (in), 42 M2 (in), 43 I/O65,GCK3 (io), 44 I/O66(HDC) (io), 45 I/O67 (io), 46 I/O68 (io), 47 I/O69 (io), 48 I/O70(LDC) (io), 49 I/O73 (io), 50 I/O74 (io), 52 I/O81 (io), 53 I/O82 (io), 54 I/O83 (io), 55 I/O84 (io), 56 I/O93 (io), 57 I/O94 (io), 58 I/O95(D15) (io), 59 I/O96(INIT) (io), 62 I/O97(D14) (io), 63 I/O98(D13) (io), 64 I/O99 (io), 65 I/O100 (io), 66 I/O109(D12) (io), 67 I/O110(D11) (io), 68 I/O111 (io), 69 I/O112 (io), 71 I/O119 (io), 72 I/O120 (io), 73 I/O123(D10) (io), 74 I/O124(D9) (io), 75 I/O125 (io), 76 I/O126 (io), 77 I/O127(D8) (io), 78 I/O128,GCK4 (io), 80 ~{CON} (io), 82 ~{RESET} (in), 83 I/O129(D7) (io), 84 I/O130,GCK5 (io), 85 I/O131 (io), 86 I/O132 (io), 87 I/O137(D6) (io), 88 I/O138 (io), 89 I/O139 (io), 90 I/O140 (io), 92 I/O147,FCK3 (io), 93 I/O148 (io), 94 I/O149(D5) (io), 95 I/O150(CS0) (io), 96 I/O157 (io), 97 I/O158 (io), 98 I/O159(D4) (io), 99 I/O160 (io), 102 I/O161(D3) (io), 103 I/O162(~{CHECK}) (io), 104 I/O163 (io), 105 I/O164 (io), 106 I/O171(D2) (io), 107 I/O172 (io), 108 I/O173 (io), 109 I/O174,FCK4 (io), 111 I/O183 (io), 112 I/O184 (io), 113 I/O185(D1) (io), 114 I/O186 (io), 115 I/O189 (io), 116 I/O190 (io), 117 I/O191(D0) (io), 118 I/O192,GCK6(~{CSOUT}) (io), 119 CCLK (in), 121 I/O201,TSTCLK (io), 123 I/O193(A0) (io), 124 I/O194,GCK7(A1) (io), 125 I/O195 (io), 126 I/O196 (io), 127 I/O197(~{CS}1,A2) (io), 128 I/O198(A3) (io), 129 I/O203 (io), 130 I/O204 (io), 132 I/O209 (io), 133 I/O210 (io), 134 I/O217(A4) (io), 135 I/O218(A5) (io), 136 I/O220 (io), 137 I/O221 (io), 138 I/O222 (io), 139 I/O223(A6) (io), 140 I/O224(A7) (io), 143 I/O225(A8) (io), 144 I/O226(A9) (io), 145 I/O227 (io), 146 I/O228 (io), 147 I/O231(A10) (io), 148 I/O232(A11) (io), 149 I/O239 (io), 150 I/O240 (io), 152 I/O245 (io), 153 I/O246 (io), 154 I/O247(A12) (io), 155 I/O248(A13) (io), 156 I/O253 (io), 157 I/O254 (io), 158 I/O255(A14) (io), 159 I/O256,GCK8(A15) (io)
part B pins: 1 GND (power), 10 GND (power), 19 GND (power), 20 VCC (power), 29 GND (power), 39 GND (power), 41 VCC (power), 51 GND (power), 60 VCC (power), 61 GND (power), 70 GND (power), 79 GND (power), 81 VCC (power), 91 GND (power), 100 VCC (power), 101 GND (power), 110 GND (power), 120 VCC (power), 122 GND (power), 131 GND (power), 141 GND (power), 142 VCC (power), 151 GND (power), 160 VCC (power)

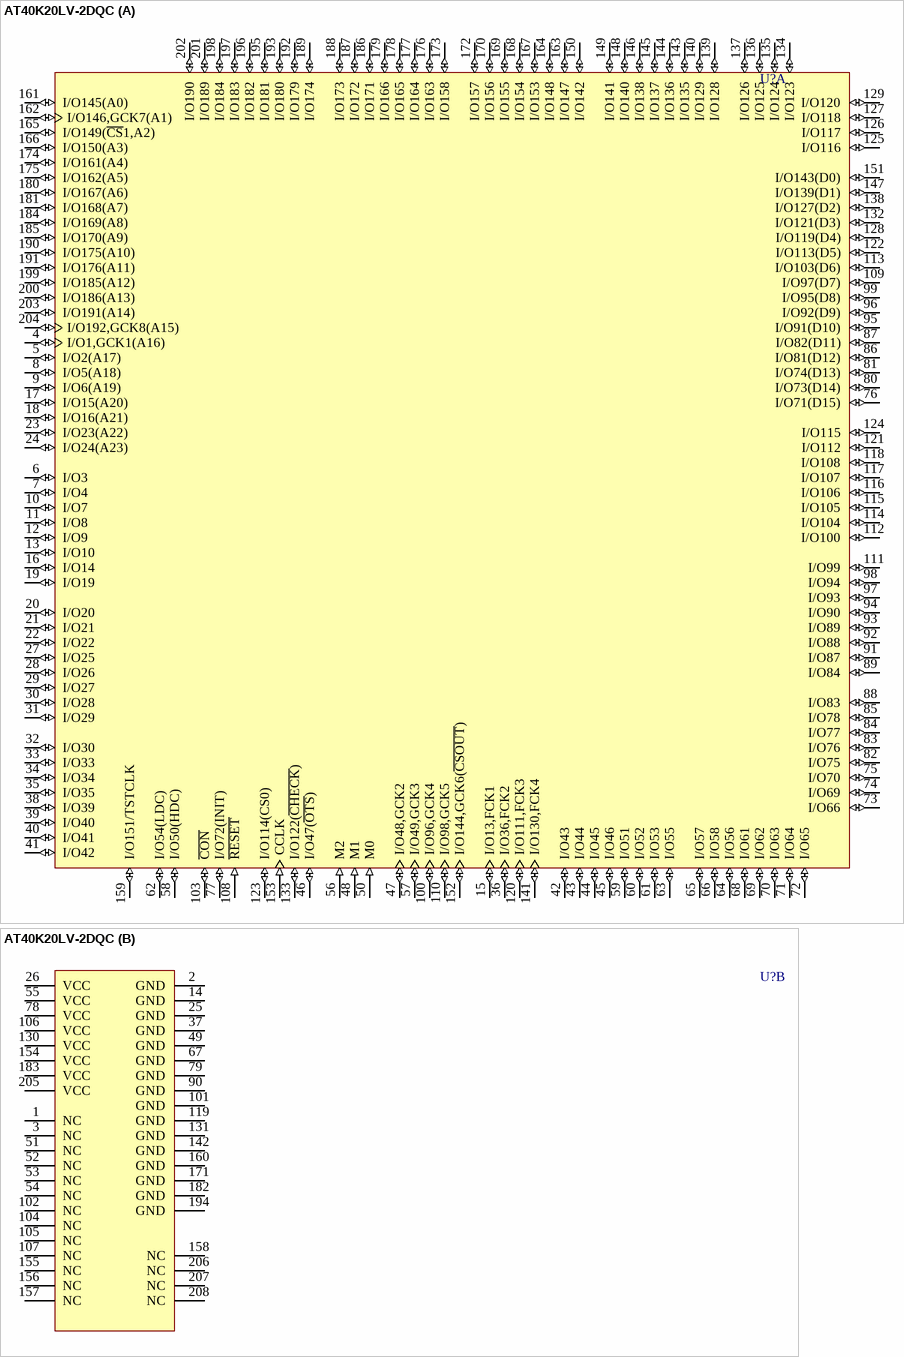
[diagram p56: symbol AT40K20LV-2DQC]

## AT40K20LV-2DQC
designator U?
AT40K20LV 3.3V FPGA, 161 User I/Os, 208-Lead PQFP, Speed Grade 2, Commercial Grade; Published: 15-Apr-2002; LatestRevisionDate: 13-Apr-2006; LatestRevisionNote: IPC-7351 Footprint Added.; DatasheetVersion: Rev. 0896C-04/02; PackageVersion: rev.A, Nov-2001; PackageReference: 208Q1; Publisher: Altium Limited; PackageDescription: 208-Pin Shrink Quad Flat Pack 0.5 mm Pitch; ComponentLink1Description: Manufacturer Link; ComponentLink1URL: http://www.atmel.com/products/FPGA/; ComponentLink2Description: Datasheet; ComponentLink2URL: http://www.atmel.com/dyn/resources/prod_documents/DOC0896.PDF
footprint 208Q1_N (Shrink QFP, 208-Leads, Body 28x28mm, Pitch 0.5mm, IPC Medium Density)
footprint 208Q1_L (Shrink QFP, 208-Leads, Body 28x28mm, Pitch 0.5mm, IPC High Density)
footprint 208Q1_M (Shrink QFP, 208-Leads, Body 28x28mm, Pitch 0.5mm, IPC Low Density)
3D model AT40K20LV-208Q1 (208-Pin Shrink Quad Flat Pack 0.5 mm Pitch)
part A pins: 4 I/O1,GCK1(A16) (io), 5 I/O2(A17) (io), 6 I/O3 (io), 7 I/O4 (io), 8 I/O5(A18) (io), 9 I/O6(A19) (io), 10 I/O7 (io), 11 I/O8 (io), 12 I/O9 (io), 13 I/O10 (io), 15 I/O13,FCK1 (io), 16 I/O14 (io), 17 I/O15(A20) (io), 18 I/O16(A21) (io), 19 I/O19 (io), 20 I/O20 (io), 21 I/O21 (io), 22 I/O22 (io), 23 I/O23(A22) (io), 24 I/O24(A23) (io), 27 I/O25 (io), 28 I/O26 (io), 29 I/O27 (io), 30 I/O28 (io), 31 I/O29 (io), 32 I/O30 (io), 33 I/O33 (io), 34 I/O34 (io), 35 I/O35 (io), 36 I/O36,FCK2 (io), 38 I/O39 (io), 39 I/O40 (io), 40 I/O41 (io), 41 I/O42 (io), 42 I/O43 (io), 43 I/O44 (io), 44 I/O45 (io), 45 I/O46 (io), 46 I/O47(~{OTS}) (io), 47 I/O48,GCK2 (io), 48 M1 (in), 50 M0 (in), 56 M2 (in), 57 I/O49,GCK3 (io), 58 I/O50(HDC) (io), 59 I/O51 (io), 60 I/O52 (io), 61 I/O53 (io), 62 I/O54(LDC) (io), 63 I/O55 (io), 64 I/O56 (io), 65 I/O57 (io), 66 I/O58 (io), 68 I/O61 (io), 69 I/O62 (io), 70 I/O63 (io), 71 I/O64 (io), 72 I/O65 (io), 73 I/O66 (io), 74 I/O69 (io), 75 I/O70 (io), 76 I/O71(D15) (io), 77 I/O72(INIT) (io), 80 I/O73(D14) (io), 81 I/O74(D13) (io), 82 I/O75 (io), 83 I/O76 (io), 84 I/O77 (io), 85 I/O78 (io), 86 I/O81(D12) (io), 87 I/O82(D11) (io), 88 I/O83 (io), 89 I/O84 (io), 91 I/O87 (io), 92 I/O88 (io), 93 I/O89 (io), 94 I/O90 (io), 95 I/O91(D10) (io), 96 I/O92(D9) (io), 97 I/O93 (io), 98 I/O94 (io), 99 I/O95(D8) (io), 100 I/O96,GCK4 (io), 103 ~{CON} (io), 108 ~{RESET} (in), 109 I/O97(D7) (io), 110 I/O98,GCK5 (io), 111 I/O99 (io), 112 I/O100 (io), 113 I/O103(D6) (io), 114 I/O104 (io), 115 I/O105 (io), 116 I/O106 (io), 117 I/O107 (io), 118 I/O108 (io), 120 I/O111,FCK3 (io), 121 I/O112 (io), 122 I/O113(D5) (io), 123 I/O114(CS0) (io), 124 I/O115 (io), 125 I/O116 (io), 126 I/O117 (io), 127 I/O118 (io), 128 I/O119(D4) (io), 129 I/O120 (io), 132 I/O121(D3) (io), 133 I/O122(~{CHECK}) (io), 134 I/O123 (io), 135 I/O124 (io), 136 I/O125 (io), 137 I/O126 (io), 138 I/O127(D2) (io), 139 I/O128 (io), 140 I/O129 (io), 141 I/O130,FCK4 (io), 143 I/O135 (io), 144 I/O136 (io), 145 I/O137 (io), 146 I/O138 (io), 147 I/O139(D1) (io), 148 I/O140 (io), 149 I/O141 (io), 150 I/O142 (io), 151 I/O143(D0) (io), 152 I/O144,GCK6(~{CSOUT}) (io), 153 CCLK (in), 159 I/O151/TSTCLK (io), 161 I/O145(A0) (io), 162 I/O146,GCK7(A1) (io), 163 I/O147 (io), 164 I/O148 (io), 165 I/O149(~{CS}1,A2) (io), 166 I/O150(A3) (io), 167 I/O153 (io), 168 I/O154 (io), 169 I/O155 (io), 170 I/O156 (io), 172 I/O157 (io), 173 I/O158 (io), 174 I/O161(A4) (io), 175 I/O162(A5) (io), 176 I/O163 (io), 177 I/O164 (io), 178 I/O165 (io), 179 I/O166 (io), 180 I/O167(A6) (io), 181 I/O168(A7) (io), 184 I/O169(A8) (io), 185 I/O170(A9) (io), 186 I/O171 (io), 187 I/O172 (io), 188 I/O173 (io), 189 I/O174 (io), 190 I/O175(A10) (io), 191 I/O176(A11) (io), 192 I/O179 (io), 193 I/O180 (io), 195 I/O181 (io), 196 I/O182 (io), 197 I/O183 (io), 198 I/O184 (io), 199 I/O185(A12) (io), 200 I/O186(A13) (io), 201 I/O189 (io), 202 I/O190 (io), 203 I/O191(A14) (io), 204 I/O192,GCK8(A15) (io)
part B pins: 1 NC, 2 GND (power), 3 NC, 14 GND (power), 25 GND (power), 26 VCC (power), 37 GND (power), 49 GND (power), 51 NC, 52 NC, 53 NC, 54 NC, 55 VCC (power), 67 GND (power), 78 VCC (power), 79 GND (power), 90 GND (power), 101 GND (power), 102 NC, 104 NC, 105 NC, 106 VCC (power), 107 NC, 119 GND (power), 130 VCC (power), 131 GND (power), 142 GND (power), 154 VCC (power), 155 NC, 156 NC, 157 NC, 158 NC, 160 GND (power), 171 GND (power), 182 GND (power), 183 VCC (power), 194 GND (power), 205 VCC (power), 206 NC, 207 NC, 208 NC

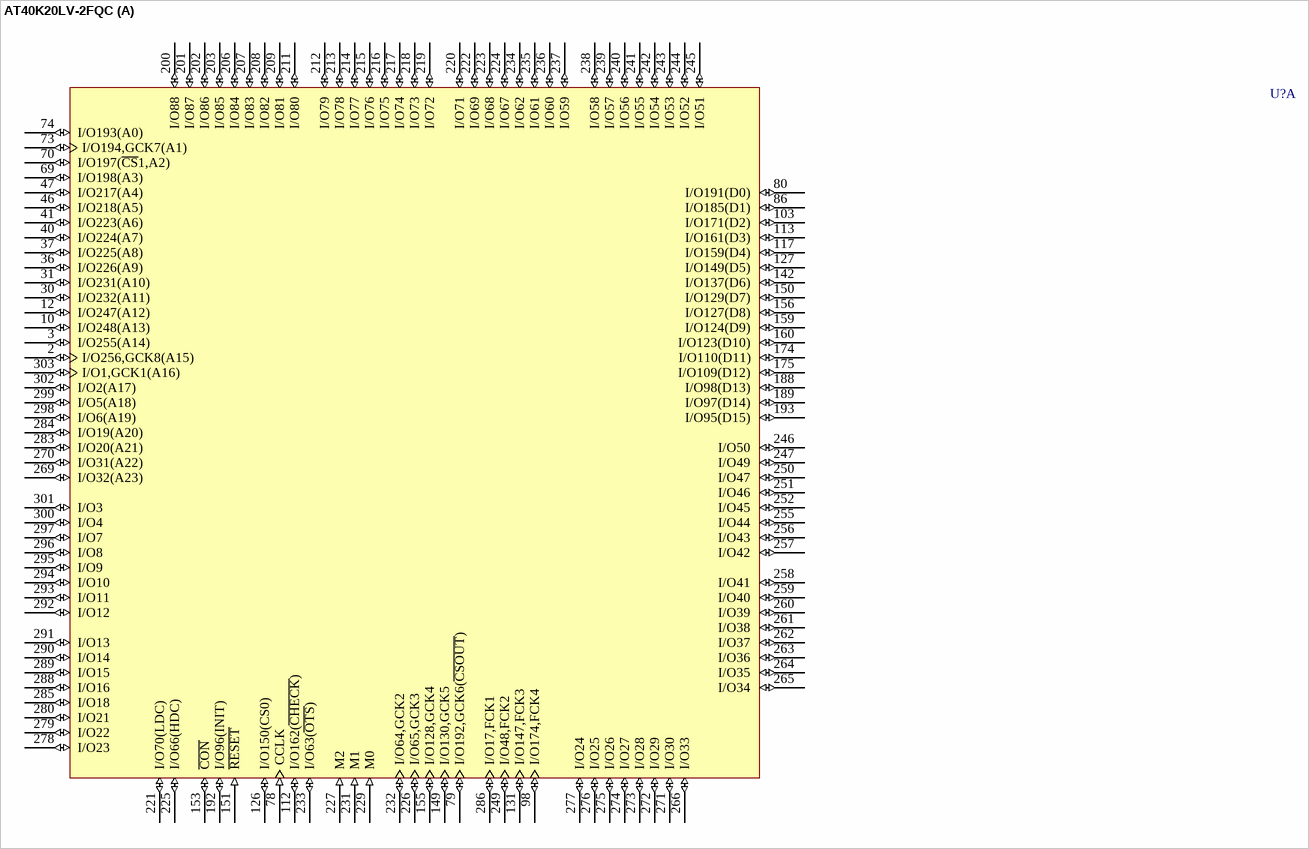
[diagram p57: symbol AT40K20LV-2FQC]

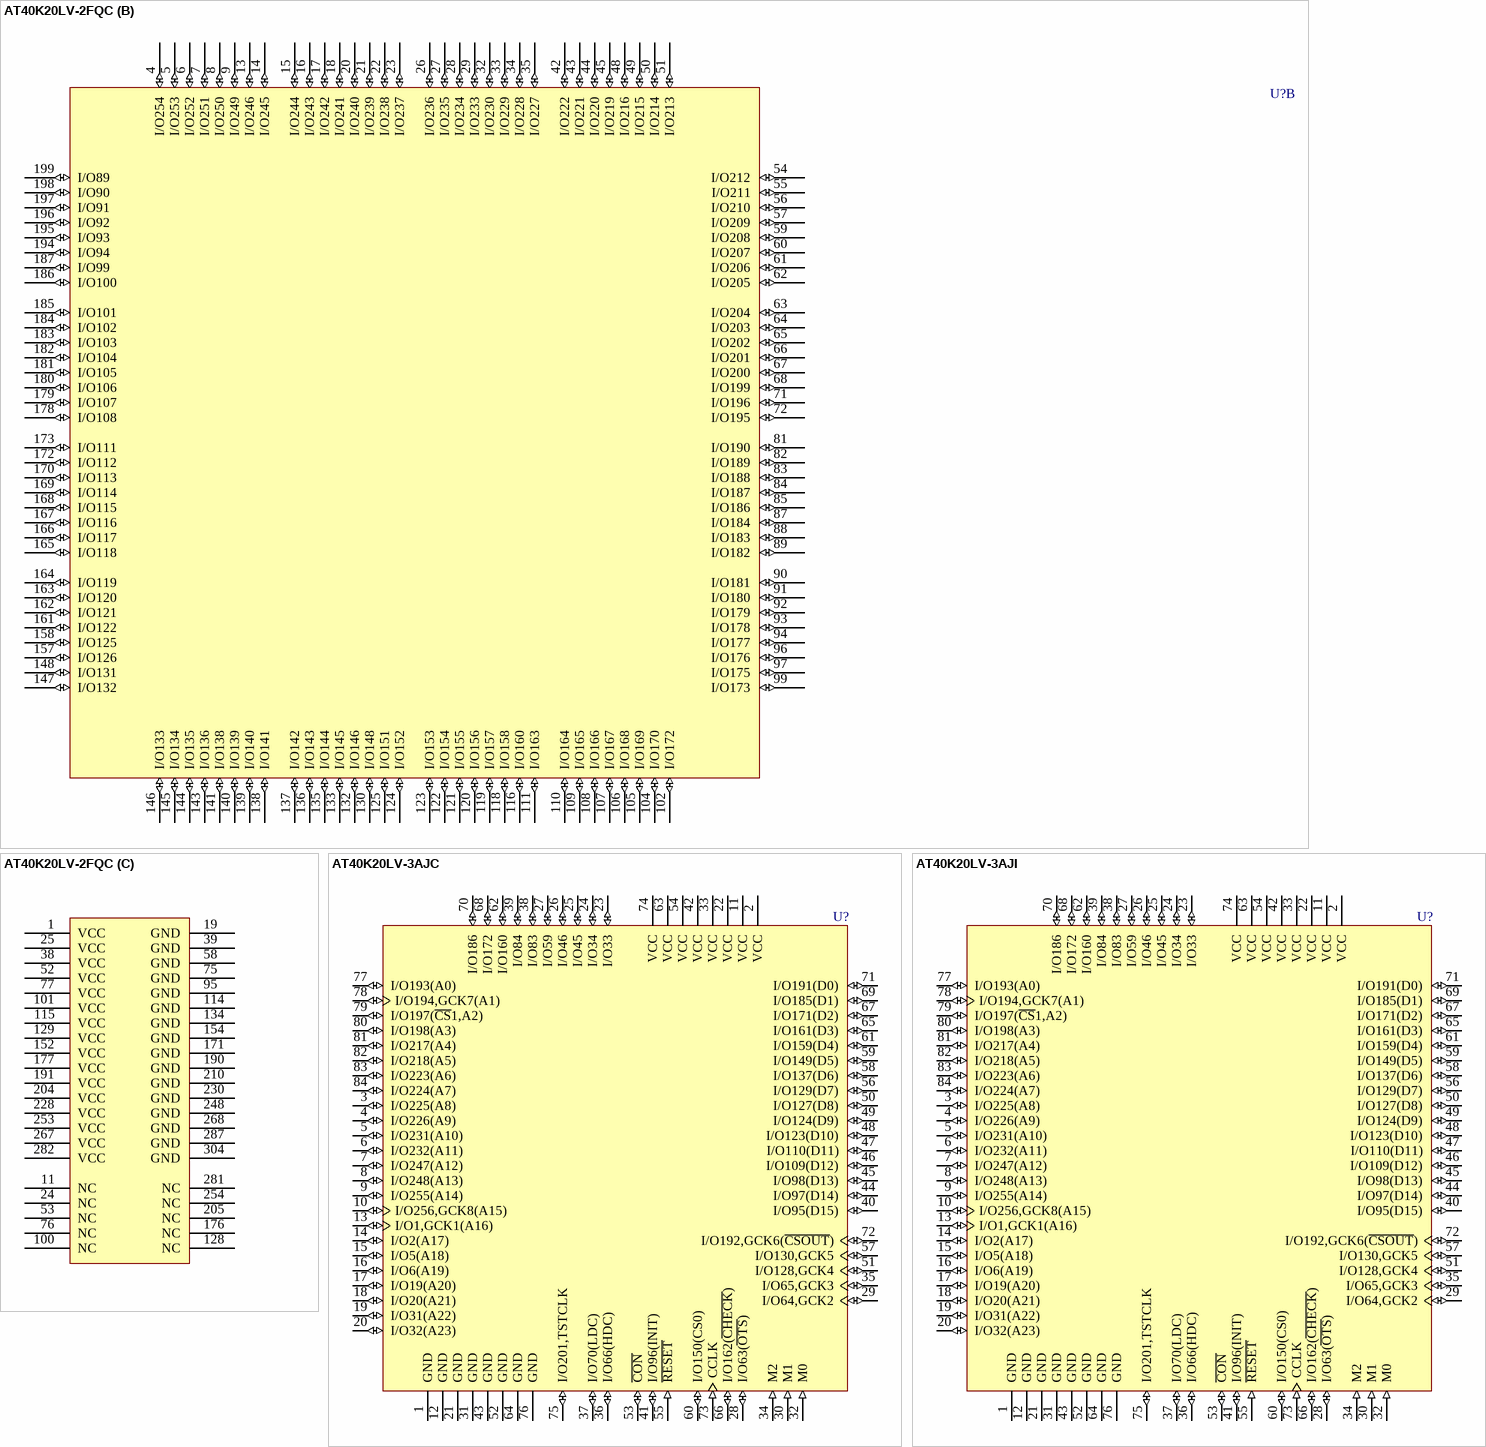
[diagram p58: symbols AT40K20LV-2FQC to AT40K20LV-3AJI]

## AT40K20LV-2FQC
designator U?
AT40K20LV 3.3V FPGA, 256 User I/Os, 304-Lead PQFP, Speed Grade 2, Commercial Grade; Published: 15-Apr-2002; LatestRevisionDate: 13-Apr-2006; LatestRevisionNote: IPC-7351 Footprint Added.; DatasheetVersion: Rev. 0896C-04/02; PackageVersion: rev.A, Mar-2002; PackageReference: 304Q1; Publisher: Altium Limited; PackageDescription: 304-Pin Shrink Quad Flat Pack 0.5 mm Pitch; Code_JEDEC: MS-029-JA; ComponentLink1Description: Manufacturer Link; ComponentLink1URL: http://www.atmel.com/products/FPGA/; ComponentLink2Description: Datasheet; ComponentLink2URL: http://www.atmel.com/dyn/resources/prod_documents/DOC0896.PDF
footprint 304Q1_N (Shrink QFP, 304-Leads, Body 40x40mm, Pitch 0.5mm, IPC Medium Density)
footprint 304Q1_L (Shrink QFP, 304-Leads, Body 40x40mm, Pitch 0.5mm, IPC High Density)
footprint 304Q1_M (Shrink QFP, 304-Leads, Body 40x40mm, Pitch 0.5mm, IPC Low Density)
3D model AT40K20LV-304Q1 (304-Pin Shrink Quad Flat Pack 0.5 mm Pitch)
part A pins: 2 I/O256,GCK8(A15) (io), 3 I/O255(A14) (io), 10 I/O248(A13) (io), 12 I/O247(A12) (io), 30 I/O232(A11) (io), 31 I/O231(A10) (io), 36 I/O226(A9) (io), 37 I/O225(A8) (io), 40 I/O224(A7) (io), 41 I/O223(A6) (io), 46 I/O218(A5) (io), 47 I/O217(A4) (io), 69 I/O198(A3) (io), 70 I/O197(~{CS}1,A2) (io), 73 I/O194,GCK7(A1) (io), 74 I/O193(A0) (io), 78 CCLK (in), 79 I/O192,GCK6(~{CSOUT}) (io), 80 I/O191(D0) (io), 86 I/O185(D1) (io), 98 I/O174,FCK4 (io), 103 I/O171(D2) (io), 112 I/O162(~{CHECK}) (io), 113 I/O161(D3) (io), 117 I/O159(D4) (io), 126 I/O150(CS0) (io), 127 I/O149(D5) (io), 131 I/O147,FCK3 (io), 142 I/O137(D6) (io), 149 I/O130,GCK5 (io), 150 I/O129(D7) (io), 151 ~{RESET} (in), 153 ~{CON} (io), 155 I/O128,GCK4 (io), 156 I/O127(D8) (io), 159 I/O124(D9) (io), 160 I/O123(D10) (io), 174 I/O110(D11) (io), 175 I/O109(D12) (io), 188 I/O98(D13) (io), 189 I/O97(D14) (io), 192 I/O96(INIT) (io), 193 I/O95(D15) (io), 200 I/O88 (io), 201 I/O87 (io), 202 I/O86 (io), 203 I/O85 (io), 206 I/O84 (io), 207 I/O83 (io), 208 I/O82 (io), 209 I/O81 (io), 211 I/O80 (io), 212 I/O79 (io), 213 I/O78 (io), 214 I/O77 (io), 215 I/O76 (io), 216 I/O75 (io), 217 I/O74 (io), 218 I/O73 (io), 219 I/O72 (io), 220 I/O71 (io), 221 I/O70(LDC) (io), 222 I/O69 (io), 223 I/O68 (io), 224 I/O67 (io), 225 I/O66(HDC) (io), 226 I/O65,GCK3 (io), 227 M2 (in), 229 M0 (in), 231 M1 (in), 232 I/O64,GCK2 (io), 233 I/O63(~{OTS}) (io), 234 I/O62 (io), 235 I/O61 (io), 236 I/O60 (io), 237 I/O59 (io), 238 I/O58 (io), 239 I/O57 (io), 240 I/O56 (io), 241 I/O55 (io), 242 I/O54 (io), 243 I/O53 (io), 244 I/O52 (io), 245 I/O51 (io), 246 I/O50 (io), 247 I/O49 (io), 249 I/O48,FCK2 (io), 250 I/O47 (io), 251 I/O46 (io), 252 I/O45 (io), 255 I/O44 (io), 256 I/O43 (io), 257 I/O42 (io), 258 I/O41 (io), 259 I/O40 (io), 260 I/O39 (io), 261 I/O38 (io), 262 I/O37 (io), 263 I/O36 (io), 264 I/O35 (io), 265 I/O34 (io), 266 I/O33 (io), 269 I/O32(A23) (io), 270 I/O31(A22) (io), 271 I/O30 (io), 272 I/O29 (io), 273 I/O28 (io), 274 I/O27 (io), 275 I/O26 (io), 276 I/O25 (io), 277 I/O24 (io), 278 I/O23 (io), 279 I/O22 (io), 280 I/O21 (io), 283 I/O20(A21) (io), 284 I/O19(A20) (io), 285 I/O18 (io), 286 I/O17,FCK1 (io), 288 I/O16 (io), 289 I/O15 (io), 290 I/O14 (io), 291 I/O13 (io), 292 I/O12 (io), 293 I/O11 (io), 294 I/O10 (io), 295 I/O9 (io), 296 I/O8 (io), 297 I/O7 (io), 298 I/O6(A19) (io), 299 I/O5(A18) (io), 300 I/O4 (io), 301 I/O3 (io), 302 I/O2(A17) (io), 303 I/O1,GCK1(A16) (io)
part B pins: 4 I/O254 (io), 5 I/O253 (io), 6 I/O252 (io), 7 I/O251 (io), 8 I/O250 (io), 9 I/O249 (io), 13 I/O246 (io), 14 I/O245 (io), 15 I/O244 (io), 16 I/O243 (io), 17 I/O242 (io), 18 I/O241 (io), 20 I/O240 (io), 21 I/O239 (io), 22 I/O238 (io), 23 I/O237 (io), 26 I/O236 (io), 27 I/O235 (io), 28 I/O234 (io), 29 I/O233 (io), 32 I/O230 (io), 33 I/O229 (io), 34 I/O228 (io), 35 I/O227 (io), 42 I/O222 (io), 43 I/O221 (io), 44 I/O220 (io), 45 I/O219 (io), 48 I/O216 (io), 49 I/O215 (io), 50 I/O214 (io), 51 I/O213 (io), 54 I/O212 (io), 55 I/O211 (io), 56 I/O210 (io), 57 I/O209 (io), 59 I/O208 (io), 60 I/O207 (io), 61 I/O206 (io), 62 I/O205 (io), 63 I/O204 (io), 64 I/O203 (io), 65 I/O202 (io), 66 I/O201 (io), 67 I/O200 (io), 68 I/O199 (io), 71 I/O196 (io), 72 I/O195 (io), 81 I/O190 (io), 82 I/O189 (io), 83 I/O188 (io), 84 I/O187 (io), 85 I/O186 (io), 87 I/O184 (io), 88 I/O183 (io), 89 I/O182 (io), 90 I/O181 (io), 91 I/O180 (io), 92 I/O179 (io), 93 I/O178 (io), 94 I/O177 (io), 96 I/O176 (io), 97 I/O175 (io), 99 I/O173 (io), 102 I/O172 (io), 104 I/O170 (io), 105 I/O169 (io), 106 I/O168 (io), 107 I/O167 (io), 108 I/O166 (io), 109 I/O165 (io), 110 I/O164 (io), 111 I/O163 (io), 116 I/O160 (io), 118 I/O158 (io), 119 I/O157 (io), 120 I/O156 (io), 121 I/O155 (io), 122 I/O154 (io), 123 I/O153 (io), 124 I/O152 (io), 125 I/O151 (io), 130 I/O148 (io), 132 I/O146 (io), 133 I/O145 (io), 135 I/O144 (io), 136 I/O143 (io), 137 I/O142 (io), 138 I/O141 (io), 139 I/O140 (io), 140 I/O139 (io), 141 I/O138 (io), 143 I/O136 (io), 144 I/O135 (io), 145 I/O134 (io), 146 I/O133 (io), 147 I/O132 (io), 148 I/O131 (io), 157 I/O126 (io), 158 I/O125 (io), 161 I/O122 (io), 162 I/O121 (io), 163 I/O120 (io), 164 I/O119 (io), 165 I/O118 (io), 166 I/O117 (io), 167 I/O116 (io), 168 I/O115 (io), 169 I/O114 (io), 170 I/O113 (io), 172 I/O112 (io), 173 I/O111 (io), 178 I/O108 (io), 179 I/O107 (io), 180 I/O106 (io), 181 I/O105 (io), 182 I/O104 (io), 183 I/O103 (io), 184 I/O102 (io), 185 I/O101 (io), 186 I/O100 (io), 187 I/O99 (io), 194 I/O94 (io), 195 I/O93 (io), 196 I/O92 (io), 197 I/O91 (io), 198 I/O90 (io), 199 I/O89 (io)
part C pins: 1 VCC (power), 11 NC, 19 GND (power), 24 NC, 25 VCC (power), 38 VCC (power), 39 GND (power), 52 VCC (power), 53 NC, 58 GND (power), 75 GND (power), 76 NC, 77 VCC (power), 95 GND (power), 100 NC, 101 VCC (power), 114 GND (power), 115 VCC (power), 128 NC, 129 VCC (power), 134 GND (power), 152 VCC (power), 154 GND (power), 171 GND (power), 176 NC, 177 VCC (power), 190 GND (power), 191 VCC (power), 204 VCC (power), 205 NC, 210 GND (power), 228 VCC (power), 230 GND (power), 248 GND (power), 253 VCC (power), 254 NC, 267 VCC (power), 268 GND (power), 281 NC, 282 VCC (power), 287 GND (power), 304 GND (power)

## AT40K20LV-3AJC
designator U?
AT40K20LV 3.3V FPGA, 62 User I/Os, 84-Lead PLCC, Speed Grade 3, Commercial Grade; Published: 17-Dec-2003; LatestRevisionDate: 13-Apr-2006; LatestRevisionNote: IPC-7351 Footprint Added.; DatasheetVersion: Rev. 0896C-04/02; PackageVersion: rev.B, Oct-2001; PackageReference: 84J; Publisher: Altium Limited; PackageDescription: 84J, 84-lead, Plastic J-leaded Chip Carrier (PLCC); Code_JEDEC: MS-018-AF; Code_IPC: PLCC-84; ComponentLink1Description: Manufacturer Link; ComponentLink1URL: http://www.atmel.com/products/FPGA/; ComponentLink2Description: Datasheet; ComponentLink2URL: http://www.atmel.com/dyn/resources/prod_documents/DOC0896.PDF
footprint 84J_N (Leaded Chip Carrier, 84-Leads, Body 29.3x29.3mm, Pitch 1.27mm, IPC Medium Density)
footprint 84J_L (Leaded Chip Carrier, 84-Leads, Body 29.3x29.3mm, Pitch 1.27mm, IPC High Density)
footprint 84J_M (Leaded Chip Carrier, 84-Leads, Body 29.3x29.3mm, Pitch 1.27mm, IPC Low Density)
3D model AT40K20LV-84J (84J, 84-lead, Plastic J-leaded Chip Carrier (PLCC))
pins: 1 GND (power), 2 VCC (power), 3 I/O225(A8) (io), 4 I/O226(A9) (io), 5 I/O231(A10) (io), 6 I/O232(A11) (io), 7 I/O247(A12) (io), 8 I/O248(A13) (io), 9 I/O255(A14) (io), 10 I/O256,GCK8(A15) (io), 11 VCC (power), 12 GND (power), 13 I/O1,GCK1(A16) (io), 14 I/O2(A17) (io), 15 I/O5(A18) (io), 16 I/O6(A19) (io), 17 I/O19(A20) (io), 18 I/O20(A21) (io), 19 I/O31(A22) (io), 20 I/O32(A23) (io), 21 GND (power), 22 VCC (power), 23 I/O33 (io), 24 I/O34 (io), 25 I/O45 (io), 26 I/O46 (io), 27 I/O59 (io), 28 I/O63(~{OTS}) (io), 29 I/O64,GCK2 (io), 30 M1 (in), 31 GND (power), 32 M0 (in), 33 VCC (power), 34 M2 (in), 35 I/O65,GCK3 (io), 36 I/O66(HDC) (io), 37 I/O70(LDC) (io), 38 I/O83 (io), 39 I/O84 (io), 40 I/O95(D15) (io), 41 I/O96(INIT) (io), 42 VCC (power), 43 GND (power), 44 I/O97(D14) (io), 45 I/O98(D13) (io), 46 I/O109(D12) (io), 47 I/O110(D11) (io), 48 I/O123(D10) (io), 49 I/O124(D9) (io), 50 I/O127(D8) (io), 51 I/O128,GCK4 (io), 52 GND (power), 53 ~{CON} (io), 54 VCC (power), 55 ~{RESET} (in), 56 I/O129(D7) (io), 57 I/O130,GCK5 (io), 58 I/O137(D6) (io), 59 I/O149(D5) (io), 60 I/O150(CS0) (io), 61 I/O159(D4) (io), 62 I/O160 (io), 63 VCC (power), 64 GND (power), 65 I/O161(D3) (io), 66 I/O162(~{CHECK}) (io), 67 I/O171(D2) (io), 68 I/O172 (io), 69 I/O185(D1) (io), 70 I/O186 (io), 71 I/O191(D0) (io), 72 I/O192,GCK6(~{CSOUT}) (io), 73 CCLK (in), 74 VCC (power), 75 I/O201,TSTCLK (io), 76 GND (power), 77 I/O193(A0) (io), 78 I/O194,GCK7(A1) (io), 79 I/O197(~{CS}1,A2) (io), 80 I/O198(A3) (io), 81 I/O217(A4) (io), 82 I/O218(A5) (io), 83 I/O223(A6) (io), 84 I/O224(A7) (io)

## AT40K20LV-3AJI
designator U?
AT40K20LV 3.3V FPGA, 62 User I/Os, 84-Lead PLCC, Speed Grade 3, Industrial Grade; Published: 17-Dec-2003; LatestRevisionDate: 13-Apr-2006; LatestRevisionNote: IPC-7351 Footprint Added.; DatasheetVersion: Rev. 0896C-04/02; PackageVersion: rev.B, Oct-2001; PackageReference: 84J; Publisher: Altium Limited; PackageDescription: 84J, 84-lead, Plastic J-leaded Chip Carrier (PLCC); Code_JEDEC: MS-018-AF; Code_IPC: PLCC-84; ComponentLink1Description: Manufacturer Link; ComponentLink1URL: http://www.atmel.com/products/FPGA/; ComponentLink2Description: Datasheet; ComponentLink2URL: http://www.atmel.com/dyn/resources/prod_documents/DOC0896.PDF
footprint 84J_N (Leaded Chip Carrier, 84-Leads, Body 29.3x29.3mm, Pitch 1.27mm, IPC Medium Density)
footprint 84J_L (Leaded Chip Carrier, 84-Leads, Body 29.3x29.3mm, Pitch 1.27mm, IPC High Density)
footprint 84J_M (Leaded Chip Carrier, 84-Leads, Body 29.3x29.3mm, Pitch 1.27mm, IPC Low Density)
3D model AT40K20LV-84J (84J, 84-lead, Plastic J-leaded Chip Carrier (PLCC))
pins: 1 GND (power), 2 VCC (power), 3 I/O225(A8) (io), 4 I/O226(A9) (io), 5 I/O231(A10) (io), 6 I/O232(A11) (io), 7 I/O247(A12) (io), 8 I/O248(A13) (io), 9 I/O255(A14) (io), 10 I/O256,GCK8(A15) (io), 11 VCC (power), 12 GND (power), 13 I/O1,GCK1(A16) (io), 14 I/O2(A17) (io), 15 I/O5(A18) (io), 16 I/O6(A19) (io), 17 I/O19(A20) (io), 18 I/O20(A21) (io), 19 I/O31(A22) (io), 20 I/O32(A23) (io), 21 GND (power), 22 VCC (power), 23 I/O33 (io), 24 I/O34 (io), 25 I/O45 (io), 26 I/O46 (io), 27 I/O59 (io), 28 I/O63(~{OTS}) (io), 29 I/O64,GCK2 (io), 30 M1 (in), 31 GND (power), 32 M0 (in), 33 VCC (power), 34 M2 (in), 35 I/O65,GCK3 (io), 36 I/O66(HDC) (io), 37 I/O70(LDC) (io), 38 I/O83 (io), 39 I/O84 (io), 40 I/O95(D15) (io), 41 I/O96(INIT) (io), 42 VCC (power), 43 GND (power), 44 I/O97(D14) (io), 45 I/O98(D13) (io), 46 I/O109(D12) (io), 47 I/O110(D11) (io), 48 I/O123(D10) (io), 49 I/O124(D9) (io), 50 I/O127(D8) (io), 51 I/O128,GCK4 (io), 52 GND (power), 53 ~{CON} (io), 54 VCC (power), 55 ~{RESET} (in), 56 I/O129(D7) (io), 57 I/O130,GCK5 (io), 58 I/O137(D6) (io), 59 I/O149(D5) (io), 60 I/O150(CS0) (io), 61 I/O159(D4) (io), 62 I/O160 (io), 63 VCC (power), 64 GND (power), 65 I/O161(D3) (io), 66 I/O162(~{CHECK}) (io), 67 I/O171(D2) (io), 68 I/O172 (io), 69 I/O185(D1) (io), 70 I/O186 (io), 71 I/O191(D0) (io), 72 I/O192,GCK6(~{CSOUT}) (io), 73 CCLK (in), 74 VCC (power), 75 I/O201,TSTCLK (io), 76 GND (power), 77 I/O193(A0) (io), 78 I/O194,GCK7(A1) (io), 79 I/O197(~{CS}1,A2) (io), 80 I/O198(A3) (io), 81 I/O217(A4) (io), 82 I/O218(A5) (io), 83 I/O223(A6) (io), 84 I/O224(A7) (io)

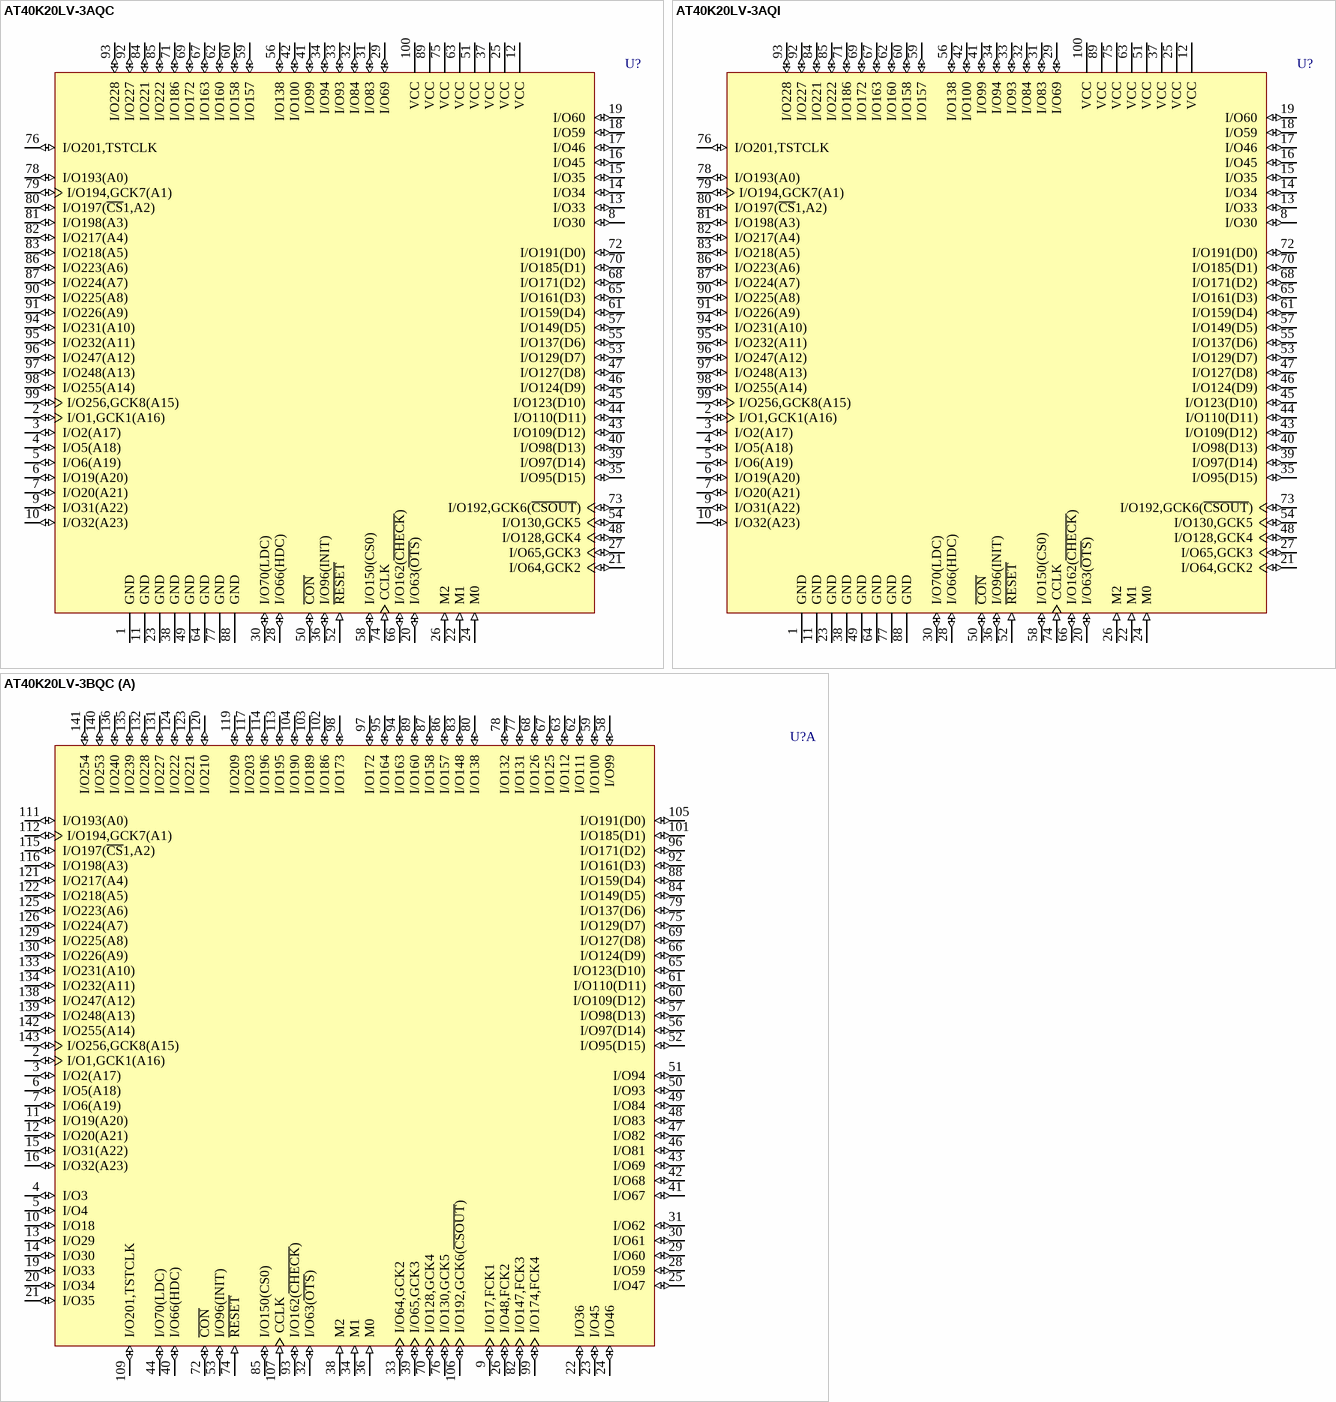
[diagram p59: symbols AT40K20LV-3AQC to AT40K20LV-3BQC]

## AT40K20LV-3AQC
designator U?
AT40K20LV 3.3V FPGA, 78 User I/Os, 100-Lead TQFP, Speed Grade 3, Commercial Grade; Published: 17-Dec-2003; LatestRevisionDate: 13-Apr-2006; LatestRevisionNote: IPC-7351 Footprint Added.; DatasheetVersion: Rev. 0896C-04/02; PackageVersion: rev.A, Nov-2001; PackageReference: 100T1; Publisher: Altium Limited; PackageDescription: 100-Pin Thin Quad Flat Pack 0.5 mm Pitch; Code_JEDEC: MS-026-AED; ComponentLink1Description: Manufacturer Link; ComponentLink1URL: http://www.atmel.com/products/FPGA/; ComponentLink2Description: Datasheet; ComponentLink2URL: http://www.atmel.com/dyn/resources/prod_documents/DOC0896.PDF
footprint 100T1_N (Thin QFP, 100-Leads, Body 14x14mm, Pitch 0.5mm, IPC Medium Density)
footprint 100T1_L (Thin QFP, 100-Leads, Body 14x14mm, Pitch 0.5mm, IPC High Density)
footprint 100T1_M (Thin QFP, 100-Leads, Body 14x14mm, Pitch 0.5mm, IPC Low Density)
3D model AT40K20LV-100T1 (100-Pin Thin Quad Flat Pack 0.5 mm Pitch)
pins: 1 GND (power), 2 I/O1,GCK1(A16) (io), 3 I/O2(A17) (io), 4 I/O5(A18) (io), 5 I/O6(A19) (io), 6 I/O19(A20) (io), 7 I/O20(A21) (io), 8 I/O30 (io), 9 I/O31(A22) (io), 10 I/O32(A23) (io), 11 GND (power), 12 VCC (power), 13 I/O33 (io), 14 I/O34 (io), 15 I/O35 (io), 16 I/O45 (io), 17 I/O46 (io), 18 I/O59 (io), 19 I/O60 (io), 20 I/O63(~{OTS}) (io), 21 I/O64,GCK2 (io), 22 M1 (in), 23 GND (power), 24 M0 (in), 25 VCC (power), 26 M2 (in), 27 I/O65,GCK3 (io), 28 I/O66(HDC) (io), 29 I/O69 (io), 30 I/O70(LDC) (io), 31 I/O83 (io), 32 I/O84 (io), 33 I/O93 (io), 34 I/O94 (io), 35 I/O95(D15) (io), 36 I/O96(INIT) (io), 37 VCC (power), 38 GND (power), 39 I/O97(D14) (io), 40 I/O98(D13) (io), 41 I/O99 (io), 42 I/O100 (io), 43 I/O109(D12) (io), 44 I/O110(D11) (io), 45 I/O123(D10) (io), 46 I/O124(D9) (io), 47 I/O127(D8) (io), 48 I/O128,GCK4 (io), 49 GND (power), 50 ~{CON} (io), 51 VCC (power), 52 ~{RESET} (in), 53 I/O129(D7) (io), 54 I/O130,GCK5 (io), 55 I/O137(D6) (io), 56 I/O138 (io), 57 I/O149(D5) (io), 58 I/O150(CS0) (io), 59 I/O157 (io), 60 I/O158 (io), 61 I/O159(D4) (io), 62 I/O160 (io), 63 VCC (power), 64 GND (power), 65 I/O161(D3) (io), 66 I/O162(~{CHECK}) (io), 67 I/O163 (io), 68 I/O171(D2) (io), 69 I/O172 (io), 70 I/O185(D1) (io), 71 I/O186 (io), 72 I/O191(D0) (io), 73 I/O192,GCK6(~{CSOUT}) (io), 74 CCLK (in), 75 VCC (power), 76 I/O201,TSTCLK (io), 77 GND (power), 78 I/O193(A0) (io), 79 I/O194,GCK7(A1) (io), 80 I/O197(~{CS}1,A2) (io), 81 I/O198(A3) (io), 82 I/O217(A4) (io), 83 I/O218(A5) (io), 84 I/O221 (io), 85 I/O222 (io), 86 I/O223(A6) (io), 87 I/O224(A7) (io), 88 GND (power), 89 VCC (power), 90 I/O225(A8) (io), 91 I/O226(A9) (io), 92 I/O227 (io), 93 I/O228 (io), 94 I/O231(A10) (io), 95 I/O232(A11) (io), 96 I/O247(A12) (io), 97 I/O248(A13) (io), 98 I/O255(A14) (io), 99 I/O256,GCK8(A15) (io), 100 VCC (power)